# Altium integrated library Actel SX-A.IntLib: 434 symbols (part 27 of 36)
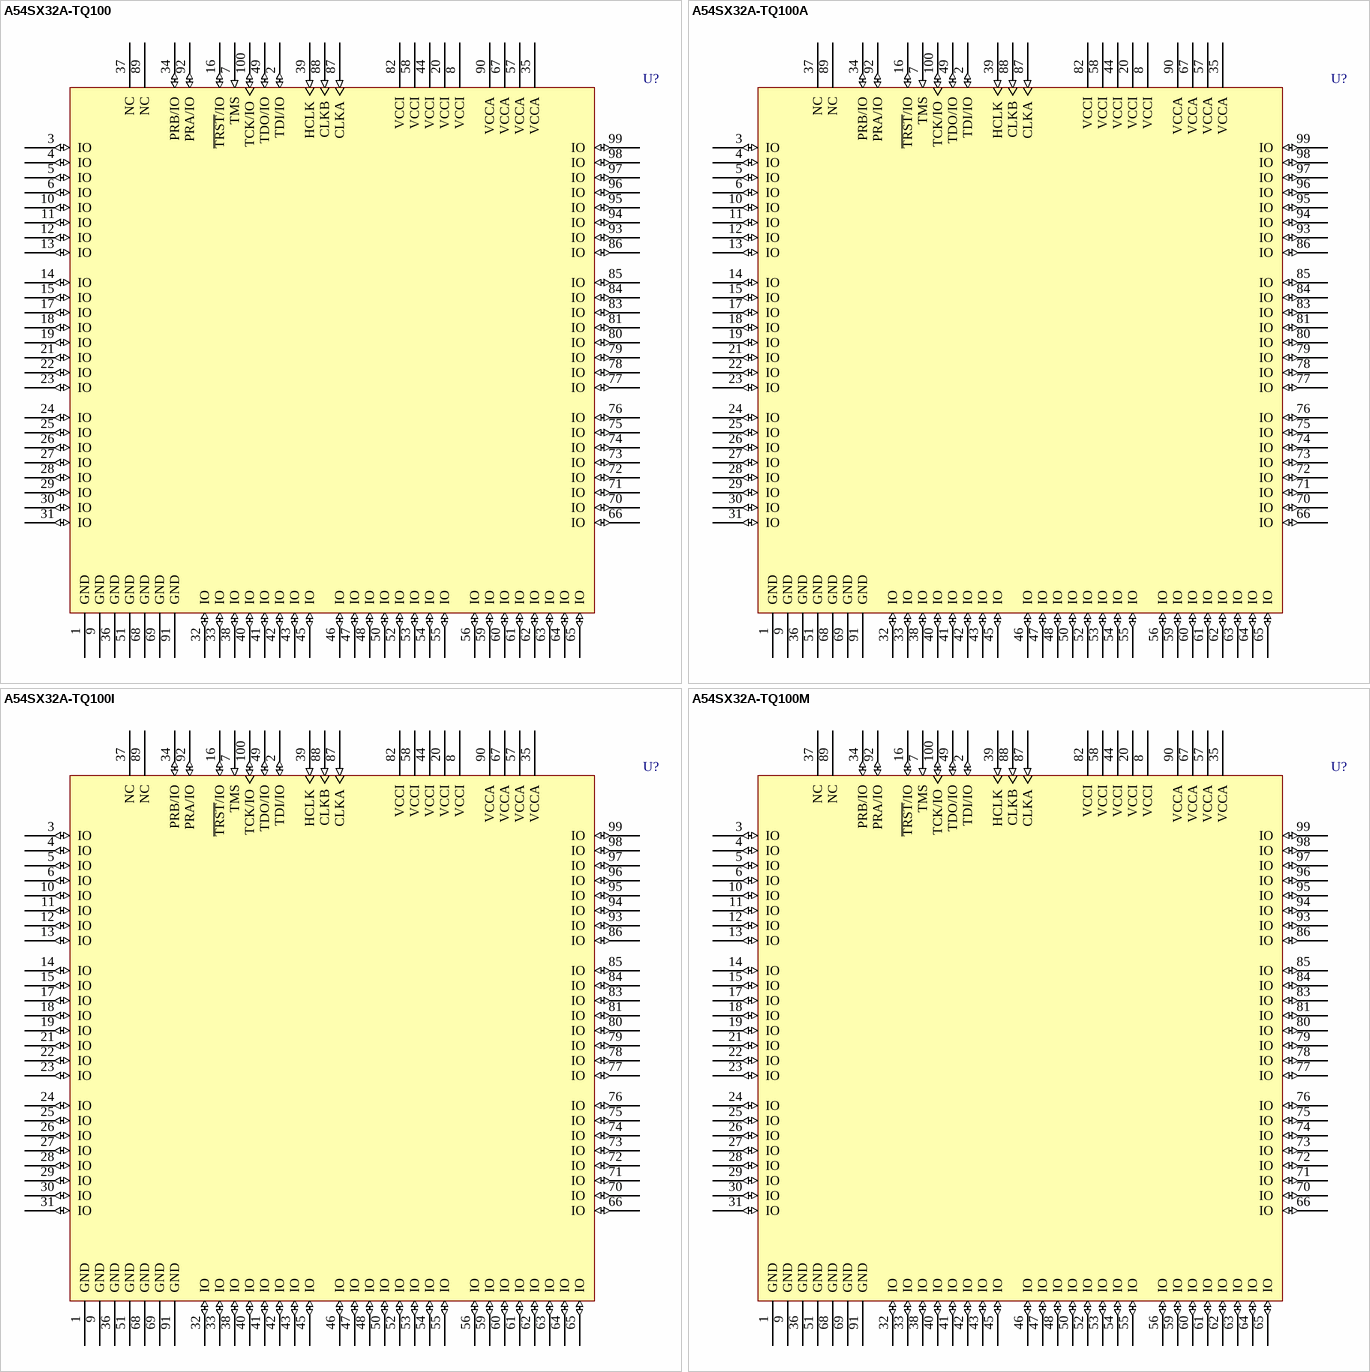
[diagram p347: symbols A54SX32A-TQ100 to A54SX32A-TQ100M]

## A54SX32A-TQ100I
designator U?
A54SX32A FPGA, 81 User IOs, 100-Pin TQFP, Standard Speed Grade, Industrial Grade; Published: 21-May-2003; LatestRevisionDate: 11-Dec-2009; LatestRevisionNote: Updated to datasheet version 5.3 Feb-2007.; DatasheetVersion: v5.3, Feb-2007; PackageVersion: ver11.2, Nov-2009; PackageReference: TQ100; Publisher: Altium Limited; PackageDescription: 100-Pin Plastic Quad Flat Pack (TQ100); Code_JEDEC: MS-026-BED; ComponentLink1Description: SX-A Datasheet; ComponentLink1URL: http://www.actel.com/documents/SXA_DS.pdf; ComponentLink2Description: Package Mechanical Drawings; ComponentLink2URL: http://www.actel.com/documents/PckgMechDrwngs.pdf; ComponentLink3Description: SX-A Documents; ComponentLink3URL: http://www.actel.com/products/proasicplus/docs.aspx; ComponentLink4Description: Actel.com Home; ComponentLink4URL: http://www.actel.com/
footprint TQ100_N (Thin QFP, 100-Leads, Body 14x14mm, Pitch 0.5mm, IPC Medium Density)
footprint TQ100_L (Thin QFP, 100-Leads, Body 14x14mm, Pitch 0.5mm, IPC High Density)
footprint TQ100_M (Thin QFP, 100-Leads, Body 14x14mm, Pitch 0.5mm, IPC Low Density)
pins: 1 GND (power), 2 TDI/IO (io), 3 IO (io), 4 IO (io), 5 IO (io), 6 IO (io), 7 TMS (in), 8 VCCI (power), 9 GND (power), 10 IO (io), 11 IO (io), 12 IO (io), 13 IO (io), 14 IO (io), 15 IO (io), 16 ~{TRST}/IO (io), 17 IO (io), 18 IO (io), 19 IO (io), 20 VCCI (power), 21 IO (io), 22 IO (io), 23 IO (io), 24 IO (io), 25 IO (io), 26 IO (io), 27 IO (io), 28 IO (io), 29 IO (io), 30 IO (io), 31 IO (io), 32 IO (io), 33 IO (io), 34 PRB/IO (io), 35 VCCA (power), 36 GND (power), 37 NC, 38 IO (io), 39 HCLK (in), 40 IO (io), 41 IO (io), 42 IO (io), 43 IO (io), 44 VCCI (power), 45 IO (io), 46 IO (io), 47 IO (io), 48 IO (io), 49 TDO/IO (io), 50 IO (io), 51 GND (power), 52 IO (io), 53 IO (io), 54 IO (io), 55 IO (io), 56 IO (io), 57 VCCA (power), 58 VCCI (power), 59 IO (io), 60 IO (io), 61 IO (io), 62 IO (io), 63 IO (io), 64 IO (io), 65 IO (io), 66 IO (io), 67 VCCA (power), 68 GND (power), 69 GND (power), 70 IO (io), 71 IO (io), 72 IO (io), 73 IO (io), 74 IO (io), 75 IO (io), 76 IO (io), 77 IO (io), 78 IO (io), 79 IO (io), 80 IO (io), 81 IO (io), 82 VCCI (power), 83 IO (io), 84 IO (io), 85 IO (io), 86 IO (io), 87 CLKA (in), 88 CLKB (in), 89 NC, 90 VCCA (power), 91 GND (power), 92 PRA/IO (io), 93 IO (io), 94 IO (io), 95 IO (io), 96 IO (io), 97 IO (io), 98 IO (io), 99 IO (io), 100 TCK/IO (io)

## A54SX32A-TQ100M
designator U?
A54SX32A FPGA, 81 User IOs, 100-Pin TQFP, Standard Speed Grade, Military Grade; Published: 17-Sep-2003; LatestRevisionDate: 11-Dec-2009; LatestRevisionNote: Updated to datasheet version 5.3 Feb-2007.; DatasheetVersion: v5.3, Feb-2007; PackageVersion: ver11.2, Nov-2009; PackageReference: TQ100; Publisher: Altium Limited; PackageDescription: 100-Pin Plastic Quad Flat Pack (TQ100); Code_JEDEC: MS-026-BED; ComponentLink1Description: SX-A Datasheet; ComponentLink1URL: http://www.actel.com/documents/SXA_DS.pdf; ComponentLink2Description: Package Mechanical Drawings; ComponentLink2URL: http://www.actel.com/documents/PckgMechDrwngs.pdf; ComponentLink3Description: SX-A Documents; ComponentLink3URL: http://www.actel.com/products/proasicplus/docs.aspx; ComponentLink4Description: Actel.com Home; ComponentLink4URL: http://www.actel.com/
footprint TQ100_N (Thin QFP, 100-Leads, Body 14x14mm, Pitch 0.5mm, IPC Medium Density)
footprint TQ100_L (Thin QFP, 100-Leads, Body 14x14mm, Pitch 0.5mm, IPC High Density)
footprint TQ100_M (Thin QFP, 100-Leads, Body 14x14mm, Pitch 0.5mm, IPC Low Density)
pins: 1 GND (power), 2 TDI/IO (io), 3 IO (io), 4 IO (io), 5 IO (io), 6 IO (io), 7 TMS (in), 8 VCCI (power), 9 GND (power), 10 IO (io), 11 IO (io), 12 IO (io), 13 IO (io), 14 IO (io), 15 IO (io), 16 ~{TRST}/IO (io), 17 IO (io), 18 IO (io), 19 IO (io), 20 VCCI (power), 21 IO (io), 22 IO (io), 23 IO (io), 24 IO (io), 25 IO (io), 26 IO (io), 27 IO (io), 28 IO (io), 29 IO (io), 30 IO (io), 31 IO (io), 32 IO (io), 33 IO (io), 34 PRB/IO (io), 35 VCCA (power), 36 GND (power), 37 NC, 38 IO (io), 39 HCLK (in), 40 IO (io), 41 IO (io), 42 IO (io), 43 IO (io), 44 VCCI (power), 45 IO (io), 46 IO (io), 47 IO (io), 48 IO (io), 49 TDO/IO (io), 50 IO (io), 51 GND (power), 52 IO (io), 53 IO (io), 54 IO (io), 55 IO (io), 56 IO (io), 57 VCCA (power), 58 VCCI (power), 59 IO (io), 60 IO (io), 61 IO (io), 62 IO (io), 63 IO (io), 64 IO (io), 65 IO (io), 66 IO (io), 67 VCCA (power), 68 GND (power), 69 GND (power), 70 IO (io), 71 IO (io), 72 IO (io), 73 IO (io), 74 IO (io), 75 IO (io), 76 IO (io), 77 IO (io), 78 IO (io), 79 IO (io), 80 IO (io), 81 IO (io), 82 VCCI (power), 83 IO (io), 84 IO (io), 85 IO (io), 86 IO (io), 87 CLKA (in), 88 CLKB (in), 89 NC, 90 VCCA (power), 91 GND (power), 92 PRA/IO (io), 93 IO (io), 94 IO (io), 95 IO (io), 96 IO (io), 97 IO (io), 98 IO (io), 99 IO (io), 100 TCK/IO (io)

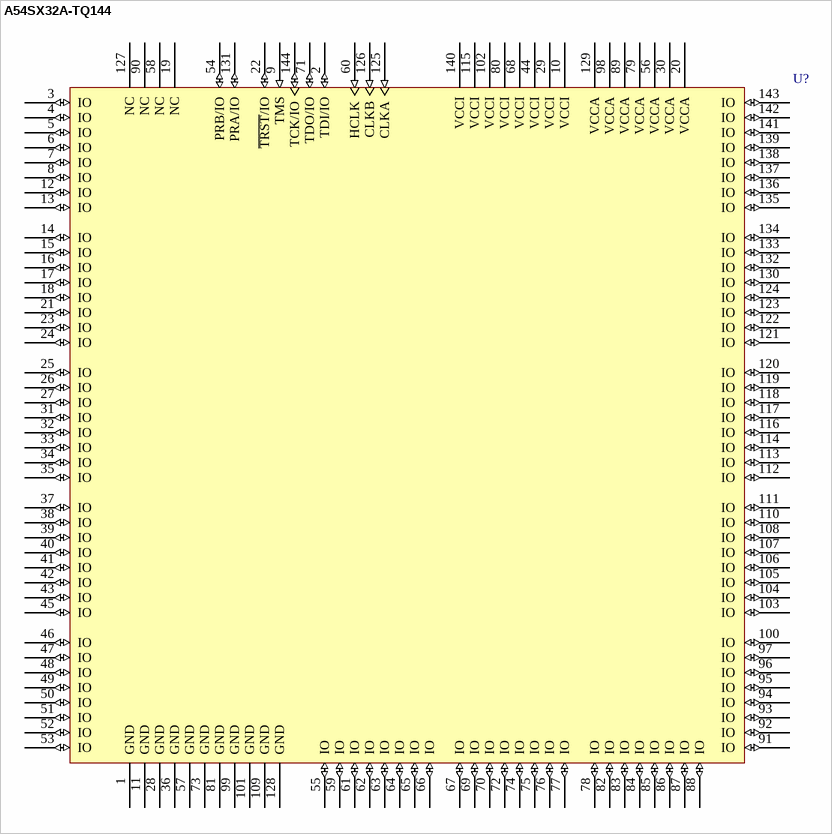
[diagram p243: symbol A54SX32A-TQ144]

## A54SX32A-TQ144
designator U?
A54SX32A FPGA, 113 User IOs, 144-Pin TQFP, Standard Speed Grade, Commercial Grade; Published: 21-May-2003; LatestRevisionDate: 11-Dec-2009; LatestRevisionNote: Updated to datasheet version 5.3 Feb-2007.; DatasheetVersion: v5.3, Feb-2007; PackageVersion: ver11.2, Nov-2009; PackageReference: TQ144; Publisher: Altium Limited; PackageDescription: 144-Pin Plastic Quad Flat Pack (TQ144); Code_JEDEC: MS-026-BFB; ComponentLink1Description: SX-A Datasheet; ComponentLink1URL: http://www.actel.com/documents/SXA_DS.pdf; ComponentLink2Description: Package Mechanical Drawings; ComponentLink2URL: http://www.actel.com/documents/PckgMechDrwngs.pdf; ComponentLink3Description: SX-A Documents; ComponentLink3URL: http://www.actel.com/products/proasicplus/docs.aspx; ComponentLink4Description: Actel.com Home; ComponentLink4URL: http://www.actel.com/
footprint TQ144_N (Thin QFP, 144-Leads, Body 20x20mm, Pitch 0.5mm, IPC Medium Density)
footprint TQ144_L (Thin QFP, 144-Leads, Body 20x20mm, Pitch 0.5mm, IPC High Density)
footprint TQ144_M (Thin QFP, 144-Leads, Body 20x20mm, Pitch 0.5mm, IPC Low Density)
pins: 1 GND (power), 2 TDI/IO (io), 3 IO (io), 4 IO (io), 5 IO (io), 6 IO (io), 7 IO (io), 8 IO (io), 9 TMS (in), 10 VCCI (power), 11 GND (power), 12 IO (io), 13 IO (io), 14 IO (io), 15 IO (io), 16 IO (io), 17 IO (io), 18 IO (io), 19 NC, 20 VCCA (power), 21 IO (io), 22 ~{TRST}/IO (io), 23 IO (io), 24 IO (io), 25 IO (io), 26 IO (io), 27 IO (io), 28 GND (power), 29 VCCI (power), 30 VCCA (power), 31 IO (io), 32 IO (io), 33 IO (io), 34 IO (io), 35 IO (io), 36 GND (power), 37 IO (io), 38 IO (io), 39 IO (io), 40 IO (io), 41 IO (io), 42 IO (io), 43 IO (io), 44 VCCI (power), 45 IO (io), 46 IO (io), 47 IO (io), 48 IO (io), 49 IO (io), 50 IO (io), 51 IO (io), 52 IO (io), 53 IO (io), 54 PRB/IO (io), 55 IO (io), 56 VCCA (power), 57 GND (power), 58 NC, 59 IO (io), 60 HCLK (in), 61 IO (io), 62 IO (io), 63 IO (io), 64 IO (io), 65 IO (io), 66 IO (io), 67 IO (io), 68 VCCI (power), 69 IO (io), 70 IO (io), 71 TDO/IO (io), 72 IO (io), 73 GND (power), 74 IO (io), 75 IO (io), 76 IO (io), 77 IO (io), 78 IO (io), 79 VCCA (power), 80 VCCI (power), 81 GND (power), 82 IO (io), 83 IO (io), 84 IO (io), 85 IO (io), 86 IO (io), 87 IO (io), 88 IO (io), 89 VCCA (power), 90 NC, 91 IO (io), 92 IO (io), 93 IO (io), 94 IO (io), 95 IO (io), 96 IO (io), 97 IO (io), 98 VCCA (power), 99 GND (power), 100 IO (io), 101 GND (power), 102 VCCI (power), 103 IO (io), 104 IO (io), 105 IO (io), 106 IO (io), 107 IO (io), 108 IO (io), 109 GND (power), 110 IO (io), 111 IO (io), 112 IO (io), 113 IO (io), 114 IO (io), 115 VCCI (power), 116 IO (io), 117 IO (io), 118 IO (io), 119 IO (io), 120 IO (io), 121 IO (io), 122 IO (io), 123 IO (io), 124 IO (io), 125 CLKA (in), 126 CLKB (in), 127 NC, 128 GND (power), 129 VCCA (power), 130 IO (io), 131 PRA/IO (io), 132 IO (io), 133 IO (io), 134 IO (io), 135 IO (io), 136 IO (io), 137 IO (io), 138 IO (io), 139 IO (io), 140 VCCI (power), 141 IO (io), 142 IO (io), 143 IO (io), 144 TCK/IO (io)

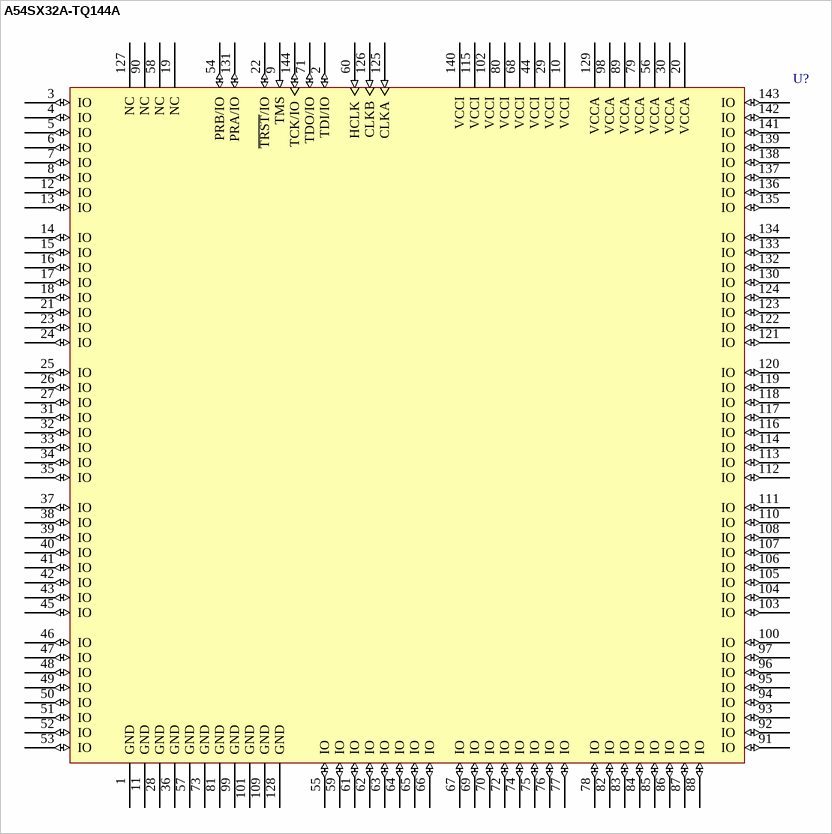
[diagram p244: symbol A54SX32A-TQ144A]

## A54SX32A-TQ144A
designator U?
A54SX32A FPGA, 113 User IOs, 144-Pin TQFP, Standard Speed Grade, Automotive Grade; Published: 21-May-2003; LatestRevisionDate: 11-Dec-2009; LatestRevisionNote: Updated to datasheet version 5.3 Feb-2007.; DatasheetVersion: v5.3, Feb-2007; PackageVersion: ver11.2, Nov-2009; PackageReference: TQ144; Publisher: Altium Limited; PackageDescription: 144-Pin Plastic Quad Flat Pack (TQ144); Code_JEDEC: MS-026-BFB; ComponentLink1Description: SX-A Datasheet; ComponentLink1URL: http://www.actel.com/documents/SXA_DS.pdf; ComponentLink2Description: Package Mechanical Drawings; ComponentLink2URL: http://www.actel.com/documents/PckgMechDrwngs.pdf; ComponentLink3Description: SX-A Documents; ComponentLink3URL: http://www.actel.com/products/proasicplus/docs.aspx; ComponentLink4Description: Actel.com Home; ComponentLink4URL: http://www.actel.com/
footprint TQ144_N (Thin QFP, 144-Leads, Body 20x20mm, Pitch 0.5mm, IPC Medium Density)
footprint TQ144_L (Thin QFP, 144-Leads, Body 20x20mm, Pitch 0.5mm, IPC High Density)
footprint TQ144_M (Thin QFP, 144-Leads, Body 20x20mm, Pitch 0.5mm, IPC Low Density)
pins: 1 GND (power), 2 TDI/IO (io), 3 IO (io), 4 IO (io), 5 IO (io), 6 IO (io), 7 IO (io), 8 IO (io), 9 TMS (in), 10 VCCI (power), 11 GND (power), 12 IO (io), 13 IO (io), 14 IO (io), 15 IO (io), 16 IO (io), 17 IO (io), 18 IO (io), 19 NC, 20 VCCA (power), 21 IO (io), 22 ~{TRST}/IO (io), 23 IO (io), 24 IO (io), 25 IO (io), 26 IO (io), 27 IO (io), 28 GND (power), 29 VCCI (power), 30 VCCA (power), 31 IO (io), 32 IO (io), 33 IO (io), 34 IO (io), 35 IO (io), 36 GND (power), 37 IO (io), 38 IO (io), 39 IO (io), 40 IO (io), 41 IO (io), 42 IO (io), 43 IO (io), 44 VCCI (power), 45 IO (io), 46 IO (io), 47 IO (io), 48 IO (io), 49 IO (io), 50 IO (io), 51 IO (io), 52 IO (io), 53 IO (io), 54 PRB/IO (io), 55 IO (io), 56 VCCA (power), 57 GND (power), 58 NC, 59 IO (io), 60 HCLK (in), 61 IO (io), 62 IO (io), 63 IO (io), 64 IO (io), 65 IO (io), 66 IO (io), 67 IO (io), 68 VCCI (power), 69 IO (io), 70 IO (io), 71 TDO/IO (io), 72 IO (io), 73 GND (power), 74 IO (io), 75 IO (io), 76 IO (io), 77 IO (io), 78 IO (io), 79 VCCA (power), 80 VCCI (power), 81 GND (power), 82 IO (io), 83 IO (io), 84 IO (io), 85 IO (io), 86 IO (io), 87 IO (io), 88 IO (io), 89 VCCA (power), 90 NC, 91 IO (io), 92 IO (io), 93 IO (io), 94 IO (io), 95 IO (io), 96 IO (io), 97 IO (io), 98 VCCA (power), 99 GND (power), 100 IO (io), 101 GND (power), 102 VCCI (power), 103 IO (io), 104 IO (io), 105 IO (io), 106 IO (io), 107 IO (io), 108 IO (io), 109 GND (power), 110 IO (io), 111 IO (io), 112 IO (io), 113 IO (io), 114 IO (io), 115 VCCI (power), 116 IO (io), 117 IO (io), 118 IO (io), 119 IO (io), 120 IO (io), 121 IO (io), 122 IO (io), 123 IO (io), 124 IO (io), 125 CLKA (in), 126 CLKB (in), 127 NC, 128 GND (power), 129 VCCA (power), 130 IO (io), 131 PRA/IO (io), 132 IO (io), 133 IO (io), 134 IO (io), 135 IO (io), 136 IO (io), 137 IO (io), 138 IO (io), 139 IO (io), 140 VCCI (power), 141 IO (io), 142 IO (io), 143 IO (io), 144 TCK/IO (io)

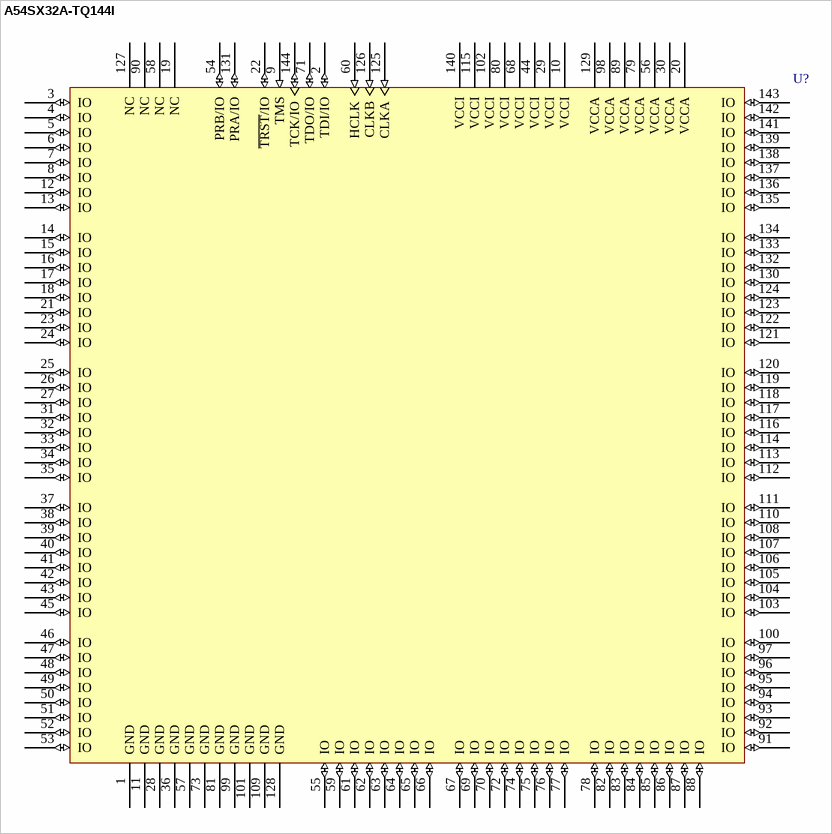
[diagram p245: symbol A54SX32A-TQ144I]

## A54SX32A-TQ144I
designator U?
A54SX32A FPGA, 113 User IOs, 144-Pin TQFP, Standard Speed Grade, Industrial Grade; Published: 21-May-2003; LatestRevisionDate: 11-Dec-2009; LatestRevisionNote: Updated to datasheet version 5.3 Feb-2007.; DatasheetVersion: v5.3, Feb-2007; PackageVersion: ver11.2, Nov-2009; PackageReference: TQ144; Publisher: Altium Limited; PackageDescription: 144-Pin Plastic Quad Flat Pack (TQ144); Code_JEDEC: MS-026-BFB; ComponentLink1Description: SX-A Datasheet; ComponentLink1URL: http://www.actel.com/documents/SXA_DS.pdf; ComponentLink2Description: Package Mechanical Drawings; ComponentLink2URL: http://www.actel.com/documents/PckgMechDrwngs.pdf; ComponentLink3Description: SX-A Documents; ComponentLink3URL: http://www.actel.com/products/proasicplus/docs.aspx; ComponentLink4Description: Actel.com Home; ComponentLink4URL: http://www.actel.com/
footprint TQ144_N (Thin QFP, 144-Leads, Body 20x20mm, Pitch 0.5mm, IPC Medium Density)
footprint TQ144_L (Thin QFP, 144-Leads, Body 20x20mm, Pitch 0.5mm, IPC High Density)
footprint TQ144_M (Thin QFP, 144-Leads, Body 20x20mm, Pitch 0.5mm, IPC Low Density)
pins: 1 GND (power), 2 TDI/IO (io), 3 IO (io), 4 IO (io), 5 IO (io), 6 IO (io), 7 IO (io), 8 IO (io), 9 TMS (in), 10 VCCI (power), 11 GND (power), 12 IO (io), 13 IO (io), 14 IO (io), 15 IO (io), 16 IO (io), 17 IO (io), 18 IO (io), 19 NC, 20 VCCA (power), 21 IO (io), 22 ~{TRST}/IO (io), 23 IO (io), 24 IO (io), 25 IO (io), 26 IO (io), 27 IO (io), 28 GND (power), 29 VCCI (power), 30 VCCA (power), 31 IO (io), 32 IO (io), 33 IO (io), 34 IO (io), 35 IO (io), 36 GND (power), 37 IO (io), 38 IO (io), 39 IO (io), 40 IO (io), 41 IO (io), 42 IO (io), 43 IO (io), 44 VCCI (power), 45 IO (io), 46 IO (io), 47 IO (io), 48 IO (io), 49 IO (io), 50 IO (io), 51 IO (io), 52 IO (io), 53 IO (io), 54 PRB/IO (io), 55 IO (io), 56 VCCA (power), 57 GND (power), 58 NC, 59 IO (io), 60 HCLK (in), 61 IO (io), 62 IO (io), 63 IO (io), 64 IO (io), 65 IO (io), 66 IO (io), 67 IO (io), 68 VCCI (power), 69 IO (io), 70 IO (io), 71 TDO/IO (io), 72 IO (io), 73 GND (power), 74 IO (io), 75 IO (io), 76 IO (io), 77 IO (io), 78 IO (io), 79 VCCA (power), 80 VCCI (power), 81 GND (power), 82 IO (io), 83 IO (io), 84 IO (io), 85 IO (io), 86 IO (io), 87 IO (io), 88 IO (io), 89 VCCA (power), 90 NC, 91 IO (io), 92 IO (io), 93 IO (io), 94 IO (io), 95 IO (io), 96 IO (io), 97 IO (io), 98 VCCA (power), 99 GND (power), 100 IO (io), 101 GND (power), 102 VCCI (power), 103 IO (io), 104 IO (io), 105 IO (io), 106 IO (io), 107 IO (io), 108 IO (io), 109 GND (power), 110 IO (io), 111 IO (io), 112 IO (io), 113 IO (io), 114 IO (io), 115 VCCI (power), 116 IO (io), 117 IO (io), 118 IO (io), 119 IO (io), 120 IO (io), 121 IO (io), 122 IO (io), 123 IO (io), 124 IO (io), 125 CLKA (in), 126 CLKB (in), 127 NC, 128 GND (power), 129 VCCA (power), 130 IO (io), 131 PRA/IO (io), 132 IO (io), 133 IO (io), 134 IO (io), 135 IO (io), 136 IO (io), 137 IO (io), 138 IO (io), 139 IO (io), 140 VCCI (power), 141 IO (io), 142 IO (io), 143 IO (io), 144 TCK/IO (io)

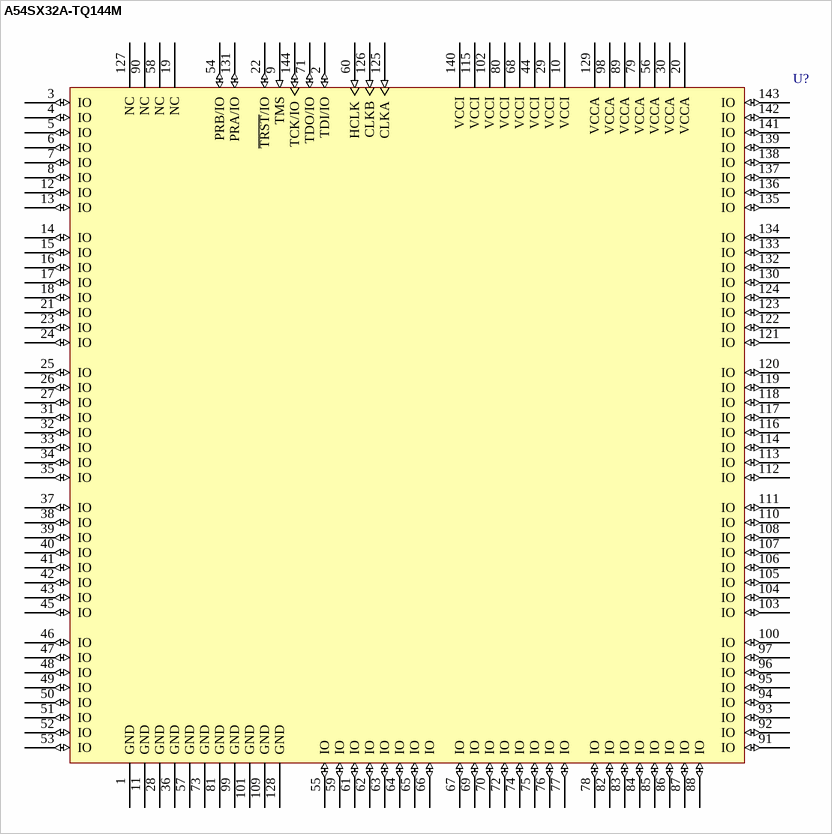
[diagram p246: symbol A54SX32A-TQ144M]

## A54SX32A-TQ144M
designator U?
A54SX32A FPGA, 113 User IOs, 144-Pin TQFP, Standard Speed Grade, Military Grade; Published: 17-Sep-2003; LatestRevisionDate: 11-Dec-2009; LatestRevisionNote: Updated to datasheet version 5.3 Feb-2007.; DatasheetVersion: v5.3, Feb-2007; PackageVersion: ver11.2, Nov-2009; PackageReference: TQ144; Publisher: Altium Limited; PackageDescription: 144-Pin Plastic Quad Flat Pack (TQ144); Code_JEDEC: MS-026-BFB; ComponentLink1Description: SX-A Datasheet; ComponentLink1URL: http://www.actel.com/documents/SXA_DS.pdf; ComponentLink2Description: Package Mechanical Drawings; ComponentLink2URL: http://www.actel.com/documents/PckgMechDrwngs.pdf; ComponentLink3Description: SX-A Documents; ComponentLink3URL: http://www.actel.com/products/proasicplus/docs.aspx; ComponentLink4Description: Actel.com Home; ComponentLink4URL: http://www.actel.com/
footprint TQ144_N (Thin QFP, 144-Leads, Body 20x20mm, Pitch 0.5mm, IPC Medium Density)
footprint TQ144_L (Thin QFP, 144-Leads, Body 20x20mm, Pitch 0.5mm, IPC High Density)
footprint TQ144_M (Thin QFP, 144-Leads, Body 20x20mm, Pitch 0.5mm, IPC Low Density)
pins: 1 GND (power), 2 TDI/IO (io), 3 IO (io), 4 IO (io), 5 IO (io), 6 IO (io), 7 IO (io), 8 IO (io), 9 TMS (in), 10 VCCI (power), 11 GND (power), 12 IO (io), 13 IO (io), 14 IO (io), 15 IO (io), 16 IO (io), 17 IO (io), 18 IO (io), 19 NC, 20 VCCA (power), 21 IO (io), 22 ~{TRST}/IO (io), 23 IO (io), 24 IO (io), 25 IO (io), 26 IO (io), 27 IO (io), 28 GND (power), 29 VCCI (power), 30 VCCA (power), 31 IO (io), 32 IO (io), 33 IO (io), 34 IO (io), 35 IO (io), 36 GND (power), 37 IO (io), 38 IO (io), 39 IO (io), 40 IO (io), 41 IO (io), 42 IO (io), 43 IO (io), 44 VCCI (power), 45 IO (io), 46 IO (io), 47 IO (io), 48 IO (io), 49 IO (io), 50 IO (io), 51 IO (io), 52 IO (io), 53 IO (io), 54 PRB/IO (io), 55 IO (io), 56 VCCA (power), 57 GND (power), 58 NC, 59 IO (io), 60 HCLK (in), 61 IO (io), 62 IO (io), 63 IO (io), 64 IO (io), 65 IO (io), 66 IO (io), 67 IO (io), 68 VCCI (power), 69 IO (io), 70 IO (io), 71 TDO/IO (io), 72 IO (io), 73 GND (power), 74 IO (io), 75 IO (io), 76 IO (io), 77 IO (io), 78 IO (io), 79 VCCA (power), 80 VCCI (power), 81 GND (power), 82 IO (io), 83 IO (io), 84 IO (io), 85 IO (io), 86 IO (io), 87 IO (io), 88 IO (io), 89 VCCA (power), 90 NC, 91 IO (io), 92 IO (io), 93 IO (io), 94 IO (io), 95 IO (io), 96 IO (io), 97 IO (io), 98 VCCA (power), 99 GND (power), 100 IO (io), 101 GND (power), 102 VCCI (power), 103 IO (io), 104 IO (io), 105 IO (io), 106 IO (io), 107 IO (io), 108 IO (io), 109 GND (power), 110 IO (io), 111 IO (io), 112 IO (io), 113 IO (io), 114 IO (io), 115 VCCI (power), 116 IO (io), 117 IO (io), 118 IO (io), 119 IO (io), 120 IO (io), 121 IO (io), 122 IO (io), 123 IO (io), 124 IO (io), 125 CLKA (in), 126 CLKB (in), 127 NC, 128 GND (power), 129 VCCA (power), 130 IO (io), 131 PRA/IO (io), 132 IO (io), 133 IO (io), 134 IO (io), 135 IO (io), 136 IO (io), 137 IO (io), 138 IO (io), 139 IO (io), 140 VCCI (power), 141 IO (io), 142 IO (io), 143 IO (io), 144 TCK/IO (io)

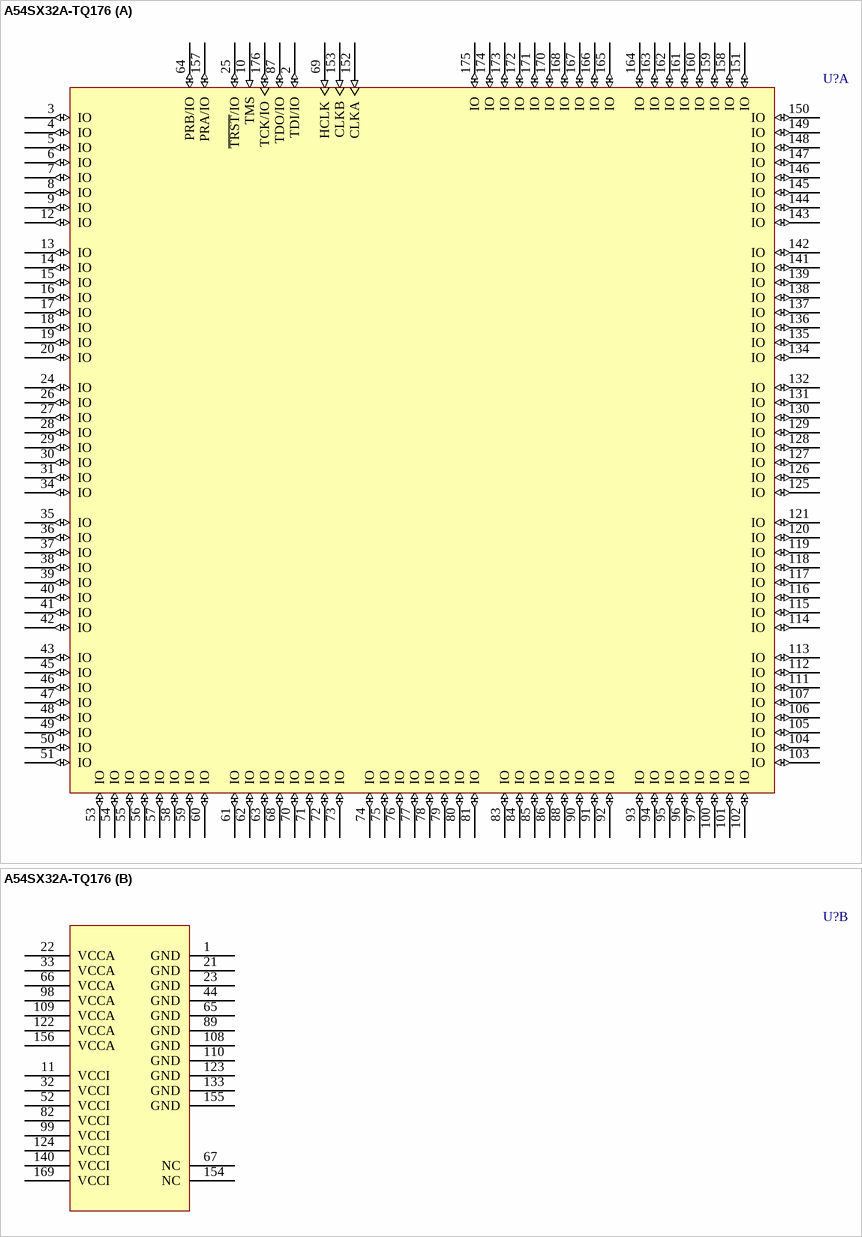
[diagram p247: symbol A54SX32A-TQ176]

## A54SX32A-TQ176
designator U?
A54SX32A FPGA, 147 User IOs, 176-Pin TQFP, Standard Speed Grade, Commercial Grade; Published: 21-May-2003; LatestRevisionDate: 11-Dec-2009; LatestRevisionNote: Updated to datasheet version 5.3 Feb-2007.; DatasheetVersion: v5.3, Feb-2007; PackageVersion: ver11.2, Nov-2009; PackageReference: TQ176; Publisher: Altium Limited; PackageDescription: 176-Pin Plastic Quad Flat Pack (TQ176); Code_JEDEC: MS-026-BCA; ComponentLink1Description: SX-A Datasheet; ComponentLink1URL: http://www.actel.com/documents/SXA_DS.pdf; ComponentLink2Description: Package Mechanical Drawings; ComponentLink2URL: http://www.actel.com/documents/PckgMechDrwngs.pdf; ComponentLink3Description: SX-A Documents; ComponentLink3URL: http://www.actel.com/products/proasicplus/docs.aspx; ComponentLink4Description: Actel.com Home; ComponentLink4URL: http://www.actel.com/
footprint TQ176_N (Thin QFP, 176-Leads, Body 24x24mm, Pitch 0.5mm, IPC Medium Density)
footprint TQ176_L (Thin QFP, 176-Leads, Body 24x24mm, Pitch 0.5mm, IPC High Density)
footprint TQ176_M (Thin QFP, 176-Leads, Body 24x24mm, Pitch 0.5mm, IPC Low Density)
part A pins: 2 TDI/IO (io), 3 IO (io), 4 IO (io), 5 IO (io), 6 IO (io), 7 IO (io), 8 IO (io), 9 IO (io), 10 TMS (in), 12 IO (io), 13 IO (io), 14 IO (io), 15 IO (io), 16 IO (io), 17 IO (io), 18 IO (io), 19 IO (io), 20 IO (io), 24 IO (io), 25 ~{TRST}/IO (io), 26 IO (io), 27 IO (io), 28 IO (io), 29 IO (io), 30 IO (io), 31 IO (io), 34 IO (io), 35 IO (io), 36 IO (io), 37 IO (io), 38 IO (io), 39 IO (io), 40 IO (io), 41 IO (io), 42 IO (io), 43 IO (io), 45 IO (io), 46 IO (io), 47 IO (io), 48 IO (io), 49 IO (io), 50 IO (io), 51 IO (io), 53 IO (io), 54 IO (io), 55 IO (io), 56 IO (io), 57 IO (io), 58 IO (io), 59 IO (io), 60 IO (io), 61 IO (io), 62 IO (io), 63 IO (io), 64 PRB/IO (io), 68 IO (io), 69 HCLK (in), 70 IO (io), 71 IO (io), 72 IO (io), 73 IO (io), 74 IO (io), 75 IO (io), 76 IO (io), 77 IO (io), 78 IO (io), 79 IO (io), 80 IO (io), 81 IO (io), 83 IO (io), 84 IO (io), 85 IO (io), 86 IO (io), 87 TDO/IO (io), 88 IO (io), 90 IO (io), 91 IO (io), 92 IO (io), 93 IO (io), 94 IO (io), 95 IO (io), 96 IO (io), 97 IO (io), 100 IO (io), 101 IO (io), 102 IO (io), 103 IO (io), 104 IO (io), 105 IO (io), 106 IO (io), 107 IO (io), 111 IO (io), 112 IO (io), 113 IO (io), 114 IO (io), 115 IO (io), 116 IO (io), 117 IO (io), 118 IO (io), 119 IO (io), 120 IO (io), 121 IO (io), 125 IO (io), 126 IO (io), 127 IO (io), 128 IO (io), 129 IO (io), 130 IO (io), 131 IO (io), 132 IO (io), 134 IO (io), 135 IO (io), 136 IO (io), 137 IO (io), 138 IO (io), 139 IO (io), 141 IO (io), 142 IO (io), 143 IO (io), 144 IO (io), 145 IO (io), 146 IO (io), 147 IO (io), 148 IO (io), 149 IO (io), 150 IO (io), 151 IO (io), 152 CLKA (in), 153 CLKB (in), 157 PRA/IO (io), 158 IO (io), 159 IO (io), 160 IO (io), 161 IO (io), 162 IO (io), 163 IO (io), 164 IO (io), 165 IO (io), 166 IO (io), 167 IO (io), 168 IO (io), 170 IO (io), 171 IO (io), 172 IO (io), 173 IO (io), 174 IO (io), 175 IO (io), 176 TCK/IO (io)
part B pins: 1 GND (power), 11 VCCI (power), 21 GND (power), 22 VCCA (power), 23 GND (power), 32 VCCI (power), 33 VCCA (power), 44 GND (power), 52 VCCI (power), 65 GND (power), 66 VCCA (power), 67 NC, 82 VCCI (power), 89 GND (power), 98 VCCA (power), 99 VCCI (power), 108 GND (power), 109 VCCA (power), 110 GND (power), 122 VCCA (power), 123 GND (power), 124 VCCI (power), 133 GND (power), 140 VCCI (power), 154 NC, 155 GND (power), 156 VCCA (power), 169 VCCI (power)

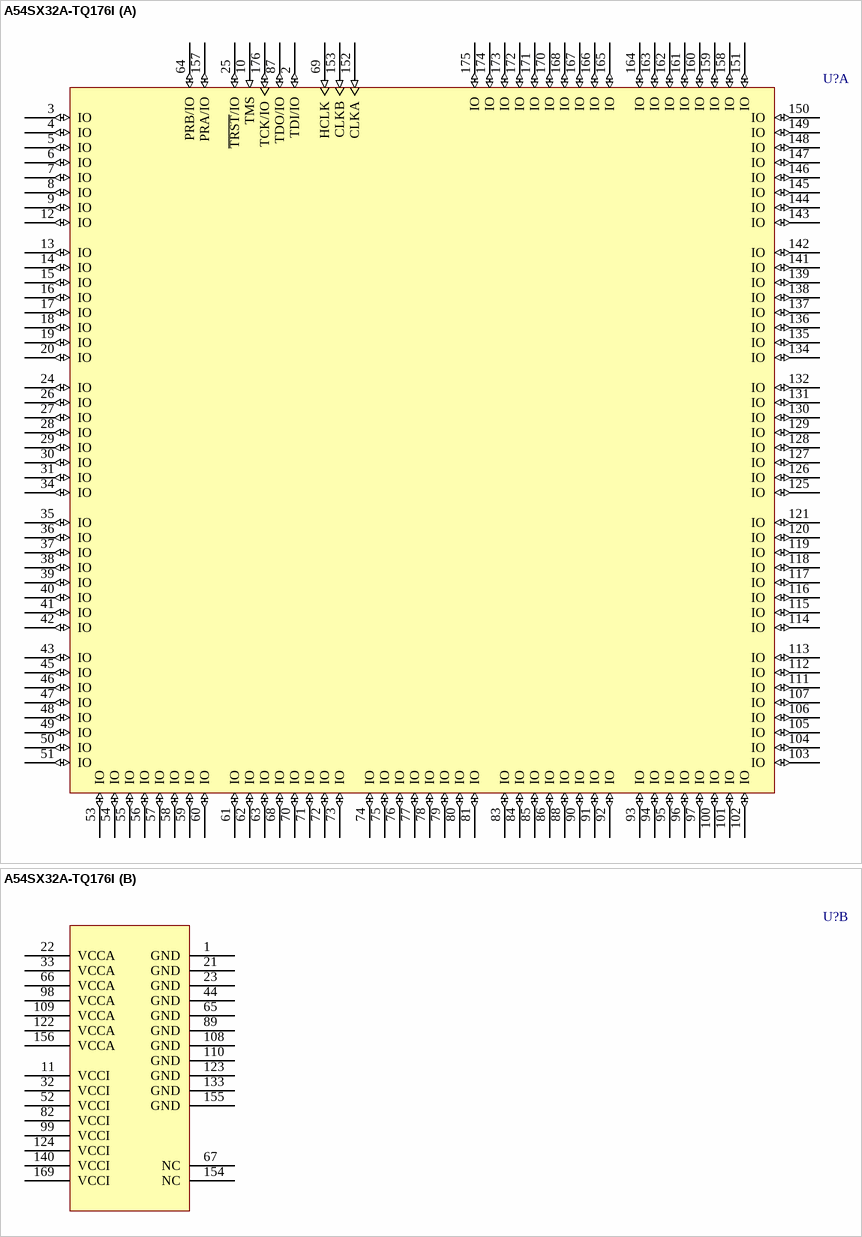
[diagram p248: symbol A54SX32A-TQ176I]

## A54SX32A-TQ176I
designator U?
A54SX32A FPGA, 147 User IOs, 176-Pin TQFP, Standard Speed Grade, Industrial Grade; Published: 21-May-2003; LatestRevisionDate: 11-Dec-2009; LatestRevisionNote: Updated to datasheet version 5.3 Feb-2007.; DatasheetVersion: v5.3, Feb-2007; PackageVersion: ver11.2, Nov-2009; PackageReference: TQ176; Publisher: Altium Limited; PackageDescription: 176-Pin Plastic Quad Flat Pack (TQ176); Code_JEDEC: MS-026-BCA; ComponentLink1Description: SX-A Datasheet; ComponentLink1URL: http://www.actel.com/documents/SXA_DS.pdf; ComponentLink2Description: Package Mechanical Drawings; ComponentLink2URL: http://www.actel.com/documents/PckgMechDrwngs.pdf; ComponentLink3Description: SX-A Documents; ComponentLink3URL: http://www.actel.com/products/proasicplus/docs.aspx; ComponentLink4Description: Actel.com Home; ComponentLink4URL: http://www.actel.com/
footprint TQ176_N (Thin QFP, 176-Leads, Body 24x24mm, Pitch 0.5mm, IPC Medium Density)
footprint TQ176_L (Thin QFP, 176-Leads, Body 24x24mm, Pitch 0.5mm, IPC High Density)
footprint TQ176_M (Thin QFP, 176-Leads, Body 24x24mm, Pitch 0.5mm, IPC Low Density)
part A pins: 2 TDI/IO (io), 3 IO (io), 4 IO (io), 5 IO (io), 6 IO (io), 7 IO (io), 8 IO (io), 9 IO (io), 10 TMS (in), 12 IO (io), 13 IO (io), 14 IO (io), 15 IO (io), 16 IO (io), 17 IO (io), 18 IO (io), 19 IO (io), 20 IO (io), 24 IO (io), 25 ~{TRST}/IO (io), 26 IO (io), 27 IO (io), 28 IO (io), 29 IO (io), 30 IO (io), 31 IO (io), 34 IO (io), 35 IO (io), 36 IO (io), 37 IO (io), 38 IO (io), 39 IO (io), 40 IO (io), 41 IO (io), 42 IO (io), 43 IO (io), 45 IO (io), 46 IO (io), 47 IO (io), 48 IO (io), 49 IO (io), 50 IO (io), 51 IO (io), 53 IO (io), 54 IO (io), 55 IO (io), 56 IO (io), 57 IO (io), 58 IO (io), 59 IO (io), 60 IO (io), 61 IO (io), 62 IO (io), 63 IO (io), 64 PRB/IO (io), 68 IO (io), 69 HCLK (in), 70 IO (io), 71 IO (io), 72 IO (io), 73 IO (io), 74 IO (io), 75 IO (io), 76 IO (io), 77 IO (io), 78 IO (io), 79 IO (io), 80 IO (io), 81 IO (io), 83 IO (io), 84 IO (io), 85 IO (io), 86 IO (io), 87 TDO/IO (io), 88 IO (io), 90 IO (io), 91 IO (io), 92 IO (io), 93 IO (io), 94 IO (io), 95 IO (io), 96 IO (io), 97 IO (io), 100 IO (io), 101 IO (io), 102 IO (io), 103 IO (io), 104 IO (io), 105 IO (io), 106 IO (io), 107 IO (io), 111 IO (io), 112 IO (io), 113 IO (io), 114 IO (io), 115 IO (io), 116 IO (io), 117 IO (io), 118 IO (io), 119 IO (io), 120 IO (io), 121 IO (io), 125 IO (io), 126 IO (io), 127 IO (io), 128 IO (io), 129 IO (io), 130 IO (io), 131 IO (io), 132 IO (io), 134 IO (io), 135 IO (io), 136 IO (io), 137 IO (io), 138 IO (io), 139 IO (io), 141 IO (io), 142 IO (io), 143 IO (io), 144 IO (io), 145 IO (io), 146 IO (io), 147 IO (io), 148 IO (io), 149 IO (io), 150 IO (io), 151 IO (io), 152 CLKA (in), 153 CLKB (in), 157 PRA/IO (io), 158 IO (io), 159 IO (io), 160 IO (io), 161 IO (io), 162 IO (io), 163 IO (io), 164 IO (io), 165 IO (io), 166 IO (io), 167 IO (io), 168 IO (io), 170 IO (io), 171 IO (io), 172 IO (io), 173 IO (io), 174 IO (io), 175 IO (io), 176 TCK/IO (io)
part B pins: 1 GND (power), 11 VCCI (power), 21 GND (power), 22 VCCA (power), 23 GND (power), 32 VCCI (power), 33 VCCA (power), 44 GND (power), 52 VCCI (power), 65 GND (power), 66 VCCA (power), 67 NC, 82 VCCI (power), 89 GND (power), 98 VCCA (power), 99 VCCI (power), 108 GND (power), 109 VCCA (power), 110 GND (power), 122 VCCA (power), 123 GND (power), 124 VCCI (power), 133 GND (power), 140 VCCI (power), 154 NC, 155 GND (power), 156 VCCA (power), 169 VCCI (power)

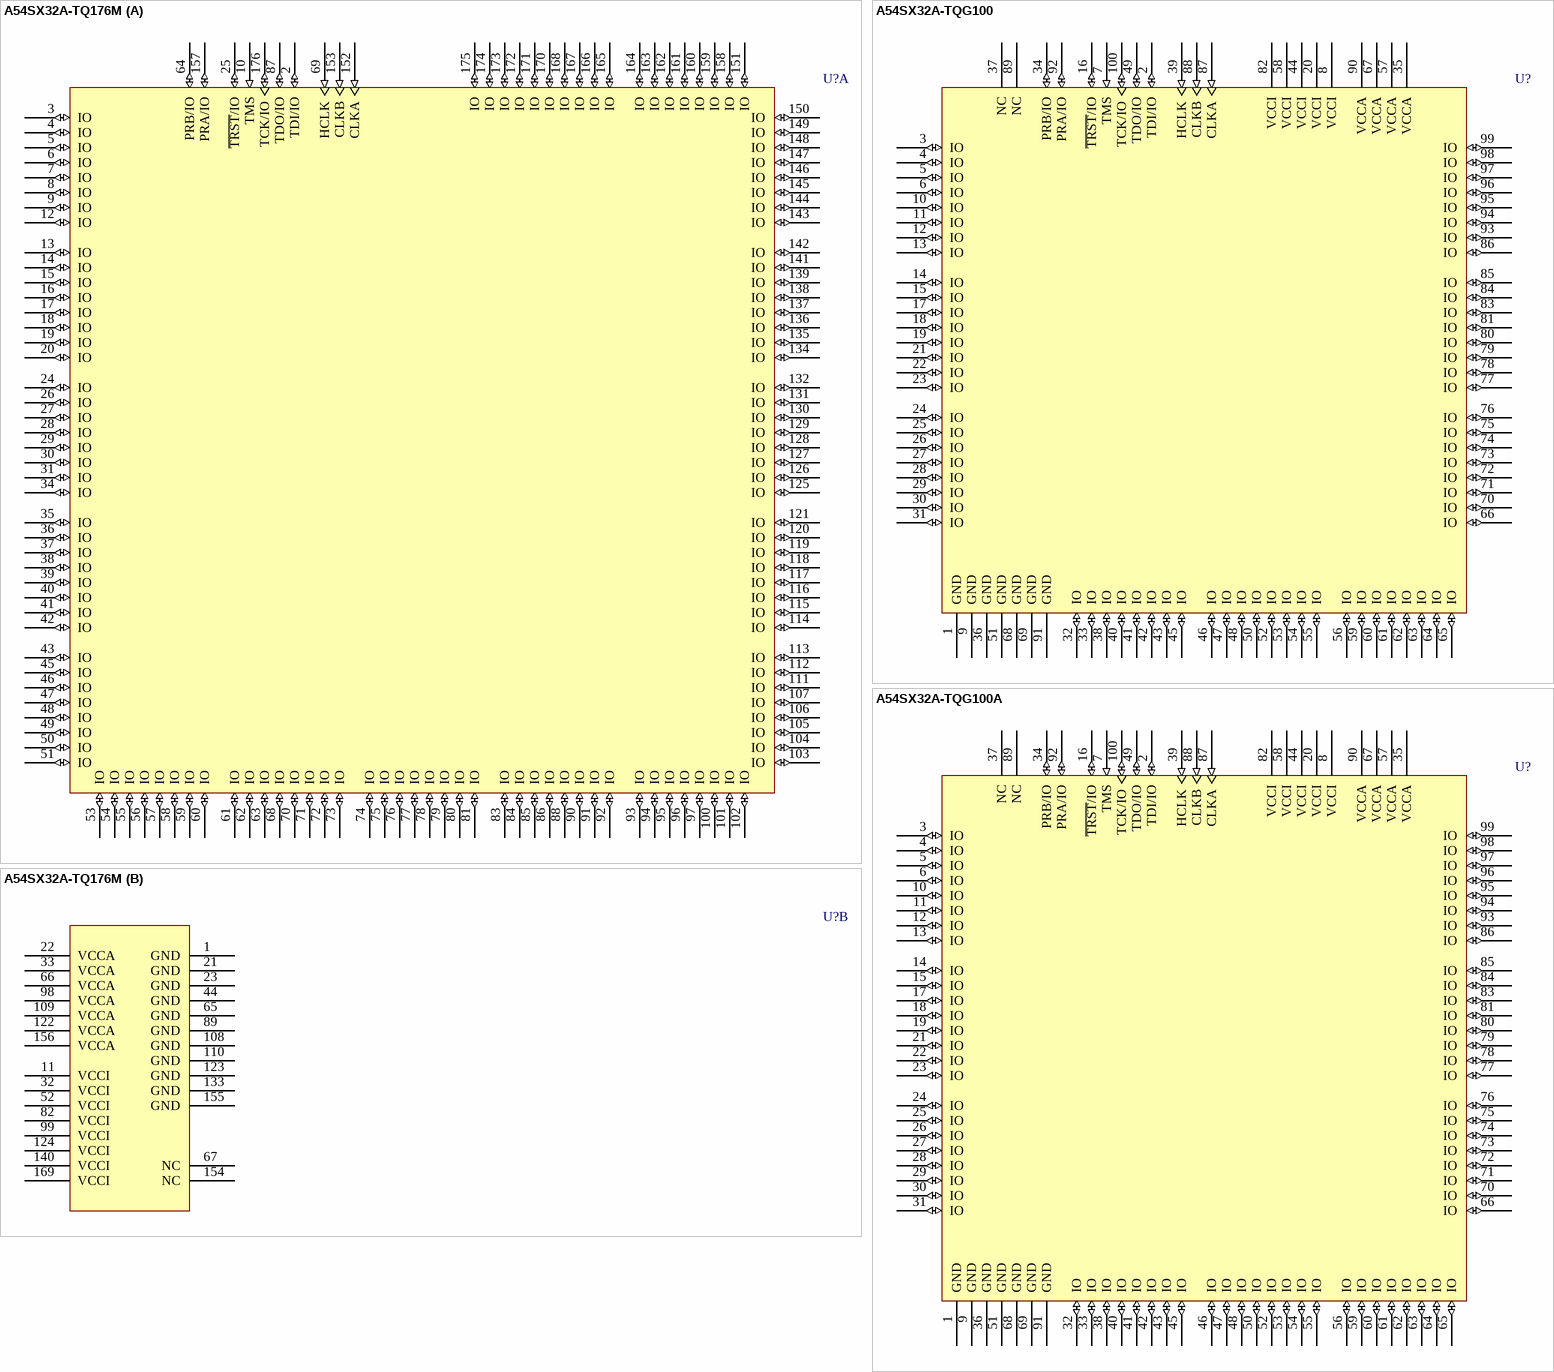
[diagram p249: symbols A54SX32A-TQ176M to A54SX32A-TQG100A]

## A54SX32A-TQ176M
designator U?
A54SX32A FPGA, 147 User IOs, 176-Pin TQFP, Standard Speed Grade, Military Grade; Published: 17-Sep-2003; LatestRevisionDate: 11-Dec-2009; LatestRevisionNote: Updated to datasheet version 5.3 Feb-2007.; DatasheetVersion: v5.3, Feb-2007; PackageVersion: ver11.2, Nov-2009; PackageReference: TQ176; Publisher: Altium Limited; PackageDescription: 176-Pin Plastic Quad Flat Pack (TQ176); Code_JEDEC: MS-026-BCA; ComponentLink1Description: SX-A Datasheet; ComponentLink1URL: http://www.actel.com/documents/SXA_DS.pdf; ComponentLink2Description: Package Mechanical Drawings; ComponentLink2URL: http://www.actel.com/documents/PckgMechDrwngs.pdf; ComponentLink3Description: SX-A Documents; ComponentLink3URL: http://www.actel.com/products/proasicplus/docs.aspx; ComponentLink4Description: Actel.com Home; ComponentLink4URL: http://www.actel.com/
footprint TQ176_N (Thin QFP, 176-Leads, Body 24x24mm, Pitch 0.5mm, IPC Medium Density)
footprint TQ176_L (Thin QFP, 176-Leads, Body 24x24mm, Pitch 0.5mm, IPC High Density)
footprint TQ176_M (Thin QFP, 176-Leads, Body 24x24mm, Pitch 0.5mm, IPC Low Density)
part A pins: 2 TDI/IO (io), 3 IO (io), 4 IO (io), 5 IO (io), 6 IO (io), 7 IO (io), 8 IO (io), 9 IO (io), 10 TMS (in), 12 IO (io), 13 IO (io), 14 IO (io), 15 IO (io), 16 IO (io), 17 IO (io), 18 IO (io), 19 IO (io), 20 IO (io), 24 IO (io), 25 ~{TRST}/IO (io), 26 IO (io), 27 IO (io), 28 IO (io), 29 IO (io), 30 IO (io), 31 IO (io), 34 IO (io), 35 IO (io), 36 IO (io), 37 IO (io), 38 IO (io), 39 IO (io), 40 IO (io), 41 IO (io), 42 IO (io), 43 IO (io), 45 IO (io), 46 IO (io), 47 IO (io), 48 IO (io), 49 IO (io), 50 IO (io), 51 IO (io), 53 IO (io), 54 IO (io), 55 IO (io), 56 IO (io), 57 IO (io), 58 IO (io), 59 IO (io), 60 IO (io), 61 IO (io), 62 IO (io), 63 IO (io), 64 PRB/IO (io), 68 IO (io), 69 HCLK (in), 70 IO (io), 71 IO (io), 72 IO (io), 73 IO (io), 74 IO (io), 75 IO (io), 76 IO (io), 77 IO (io), 78 IO (io), 79 IO (io), 80 IO (io), 81 IO (io), 83 IO (io), 84 IO (io), 85 IO (io), 86 IO (io), 87 TDO/IO (io), 88 IO (io), 90 IO (io), 91 IO (io), 92 IO (io), 93 IO (io), 94 IO (io), 95 IO (io), 96 IO (io), 97 IO (io), 100 IO (io), 101 IO (io), 102 IO (io), 103 IO (io), 104 IO (io), 105 IO (io), 106 IO (io), 107 IO (io), 111 IO (io), 112 IO (io), 113 IO (io), 114 IO (io), 115 IO (io), 116 IO (io), 117 IO (io), 118 IO (io), 119 IO (io), 120 IO (io), 121 IO (io), 125 IO (io), 126 IO (io), 127 IO (io), 128 IO (io), 129 IO (io), 130 IO (io), 131 IO (io), 132 IO (io), 134 IO (io), 135 IO (io), 136 IO (io), 137 IO (io), 138 IO (io), 139 IO (io), 141 IO (io), 142 IO (io), 143 IO (io), 144 IO (io), 145 IO (io), 146 IO (io), 147 IO (io), 148 IO (io), 149 IO (io), 150 IO (io), 151 IO (io), 152 CLKA (in), 153 CLKB (in), 157 PRA/IO (io), 158 IO (io), 159 IO (io), 160 IO (io), 161 IO (io), 162 IO (io), 163 IO (io), 164 IO (io), 165 IO (io), 166 IO (io), 167 IO (io), 168 IO (io), 170 IO (io), 171 IO (io), 172 IO (io), 173 IO (io), 174 IO (io), 175 IO (io), 176 TCK/IO (io)
part B pins: 1 GND (power), 11 VCCI (power), 21 GND (power), 22 VCCA (power), 23 GND (power), 32 VCCI (power), 33 VCCA (power), 44 GND (power), 52 VCCI (power), 65 GND (power), 66 VCCA (power), 67 NC, 82 VCCI (power), 89 GND (power), 98 VCCA (power), 99 VCCI (power), 108 GND (power), 109 VCCA (power), 110 GND (power), 122 VCCA (power), 123 GND (power), 124 VCCI (power), 133 GND (power), 140 VCCI (power), 154 NC, 155 GND (power), 156 VCCA (power), 169 VCCI (power)

## A54SX32A-TQG100
designator U?
A54SX32A FPGA, 81 User IOs, 100-Pin TQFP, Standard Speed Grade, Commercial Grade, Pb-Free; Published: 11-Dec-2009; DatasheetVersion: v5.3, Feb-2007; PackageVersion: ver11.2, Nov-2009; PackageReference: TQ100; Publisher: Altium Limited; PackageDescription: 100-Pin Plastic Quad Flat Pack (TQ100); Code_JEDEC: MS-026-BED; ComponentLink1Description: SX-A Datasheet; ComponentLink1URL: http://www.actel.com/documents/SXA_DS.pdf; ComponentLink2Description: Package Mechanical Drawings; ComponentLink2URL: http://www.actel.com/documents/PckgMechDrwngs.pdf; ComponentLink3Description: SX-A Documents; ComponentLink3URL: http://www.actel.com/products/proasicplus/docs.aspx; ComponentLink4Description: Actel.com Home; ComponentLink4URL: http://www.actel.com/
footprint TQ100_N (Thin QFP, 100-Leads, Body 14x14mm, Pitch 0.5mm, IPC Medium Density)
footprint TQ100_L (Thin QFP, 100-Leads, Body 14x14mm, Pitch 0.5mm, IPC High Density)
footprint TQ100_M (Thin QFP, 100-Leads, Body 14x14mm, Pitch 0.5mm, IPC Low Density)
pins: 1 GND (power), 2 TDI/IO (io), 3 IO (io), 4 IO (io), 5 IO (io), 6 IO (io), 7 TMS (in), 8 VCCI (power), 9 GND (power), 10 IO (io), 11 IO (io), 12 IO (io), 13 IO (io), 14 IO (io), 15 IO (io), 16 ~{TRST}/IO (io), 17 IO (io), 18 IO (io), 19 IO (io), 20 VCCI (power), 21 IO (io), 22 IO (io), 23 IO (io), 24 IO (io), 25 IO (io), 26 IO (io), 27 IO (io), 28 IO (io), 29 IO (io), 30 IO (io), 31 IO (io), 32 IO (io), 33 IO (io), 34 PRB/IO (io), 35 VCCA (power), 36 GND (power), 37 NC, 38 IO (io), 39 HCLK (in), 40 IO (io), 41 IO (io), 42 IO (io), 43 IO (io), 44 VCCI (power), 45 IO (io), 46 IO (io), 47 IO (io), 48 IO (io), 49 TDO/IO (io), 50 IO (io), 51 GND (power), 52 IO (io), 53 IO (io), 54 IO (io), 55 IO (io), 56 IO (io), 57 VCCA (power), 58 VCCI (power), 59 IO (io), 60 IO (io), 61 IO (io), 62 IO (io), 63 IO (io), 64 IO (io), 65 IO (io), 66 IO (io), 67 VCCA (power), 68 GND (power), 69 GND (power), 70 IO (io), 71 IO (io), 72 IO (io), 73 IO (io), 74 IO (io), 75 IO (io), 76 IO (io), 77 IO (io), 78 IO (io), 79 IO (io), 80 IO (io), 81 IO (io), 82 VCCI (power), 83 IO (io), 84 IO (io), 85 IO (io), 86 IO (io), 87 CLKA (in), 88 CLKB (in), 89 NC, 90 VCCA (power), 91 GND (power), 92 PRA/IO (io), 93 IO (io), 94 IO (io), 95 IO (io), 96 IO (io), 97 IO (io), 98 IO (io), 99 IO (io), 100 TCK/IO (io)

## A54SX32A-TQG100A
designator U?
A54SX32A FPGA, 81 User IOs, 100-Pin TQFP, Standard Speed Grade, Automotive Grade, Pb-Free; Published: 11-Dec-2009; DatasheetVersion: v5.3, Feb-2007; PackageVersion: ver11.2, Nov-2009; PackageReference: TQ100; Publisher: Altium Limited; PackageDescription: 100-Pin Plastic Quad Flat Pack (TQ100); Code_JEDEC: MS-026-BED; ComponentLink1Description: SX-A Datasheet; ComponentLink1URL: http://www.actel.com/documents/SXA_DS.pdf; ComponentLink2Description: Package Mechanical Drawings; ComponentLink2URL: http://www.actel.com/documents/PckgMechDrwngs.pdf; ComponentLink3Description: SX-A Documents; ComponentLink3URL: http://www.actel.com/products/proasicplus/docs.aspx; ComponentLink4Description: Actel.com Home; ComponentLink4URL: http://www.actel.com/
footprint TQ100_N (Thin QFP, 100-Leads, Body 14x14mm, Pitch 0.5mm, IPC Medium Density)
footprint TQ100_L (Thin QFP, 100-Leads, Body 14x14mm, Pitch 0.5mm, IPC High Density)
footprint TQ100_M (Thin QFP, 100-Leads, Body 14x14mm, Pitch 0.5mm, IPC Low Density)
pins: 1 GND (power), 2 TDI/IO (io), 3 IO (io), 4 IO (io), 5 IO (io), 6 IO (io), 7 TMS (in), 8 VCCI (power), 9 GND (power), 10 IO (io), 11 IO (io), 12 IO (io), 13 IO (io), 14 IO (io), 15 IO (io), 16 ~{TRST}/IO (io), 17 IO (io), 18 IO (io), 19 IO (io), 20 VCCI (power), 21 IO (io), 22 IO (io), 23 IO (io), 24 IO (io), 25 IO (io), 26 IO (io), 27 IO (io), 28 IO (io), 29 IO (io), 30 IO (io), 31 IO (io), 32 IO (io), 33 IO (io), 34 PRB/IO (io), 35 VCCA (power), 36 GND (power), 37 NC, 38 IO (io), 39 HCLK (in), 40 IO (io), 41 IO (io), 42 IO (io), 43 IO (io), 44 VCCI (power), 45 IO (io), 46 IO (io), 47 IO (io), 48 IO (io), 49 TDO/IO (io), 50 IO (io), 51 GND (power), 52 IO (io), 53 IO (io), 54 IO (io), 55 IO (io), 56 IO (io), 57 VCCA (power), 58 VCCI (power), 59 IO (io), 60 IO (io), 61 IO (io), 62 IO (io), 63 IO (io), 64 IO (io), 65 IO (io), 66 IO (io), 67 VCCA (power), 68 GND (power), 69 GND (power), 70 IO (io), 71 IO (io), 72 IO (io), 73 IO (io), 74 IO (io), 75 IO (io), 76 IO (io), 77 IO (io), 78 IO (io), 79 IO (io), 80 IO (io), 81 IO (io), 82 VCCI (power), 83 IO (io), 84 IO (io), 85 IO (io), 86 IO (io), 87 CLKA (in), 88 CLKB (in), 89 NC, 90 VCCA (power), 91 GND (power), 92 PRA/IO (io), 93 IO (io), 94 IO (io), 95 IO (io), 96 IO (io), 97 IO (io), 98 IO (io), 99 IO (io), 100 TCK/IO (io)

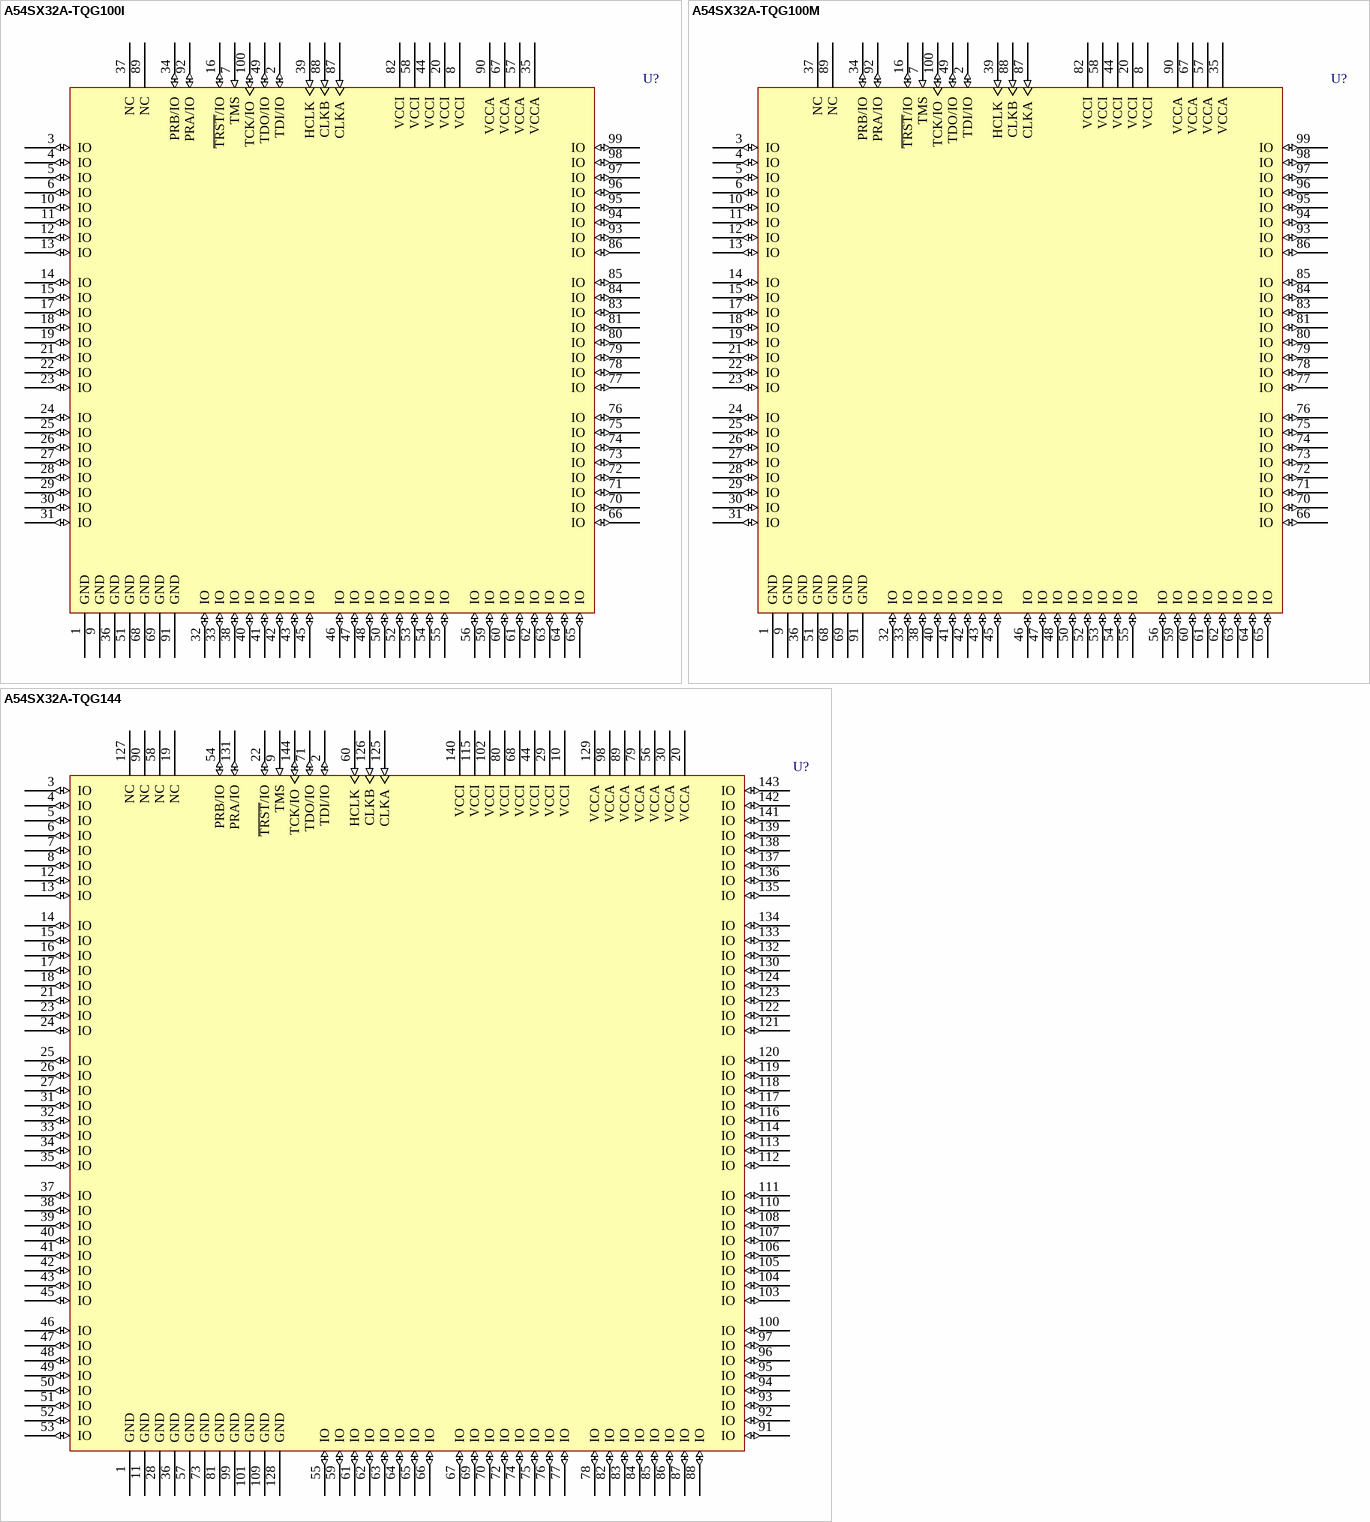
[diagram p250: symbols A54SX32A-TQG100I to A54SX32A-TQG144]

## A54SX32A-TQG100I
designator U?
A54SX32A FPGA, 81 User IOs, 100-Pin TQFP, Standard Speed Grade, Industrial Grade, Pb-Free; Published: 11-Dec-2009; DatasheetVersion: v5.3, Feb-2007; PackageVersion: ver11.2, Nov-2009; PackageReference: TQ100; Publisher: Altium Limited; PackageDescription: 100-Pin Plastic Quad Flat Pack (TQ100); Code_JEDEC: MS-026-BED; ComponentLink1Description: SX-A Datasheet; ComponentLink1URL: http://www.actel.com/documents/SXA_DS.pdf; ComponentLink2Description: Package Mechanical Drawings; ComponentLink2URL: http://www.actel.com/documents/PckgMechDrwngs.pdf; ComponentLink3Description: SX-A Documents; ComponentLink3URL: http://www.actel.com/products/proasicplus/docs.aspx; ComponentLink4Description: Actel.com Home; ComponentLink4URL: http://www.actel.com/
footprint TQ100_N (Thin QFP, 100-Leads, Body 14x14mm, Pitch 0.5mm, IPC Medium Density)
footprint TQ100_L (Thin QFP, 100-Leads, Body 14x14mm, Pitch 0.5mm, IPC High Density)
footprint TQ100_M (Thin QFP, 100-Leads, Body 14x14mm, Pitch 0.5mm, IPC Low Density)
pins: 1 GND (power), 2 TDI/IO (io), 3 IO (io), 4 IO (io), 5 IO (io), 6 IO (io), 7 TMS (in), 8 VCCI (power), 9 GND (power), 10 IO (io), 11 IO (io), 12 IO (io), 13 IO (io), 14 IO (io), 15 IO (io), 16 ~{TRST}/IO (io), 17 IO (io), 18 IO (io), 19 IO (io), 20 VCCI (power), 21 IO (io), 22 IO (io), 23 IO (io), 24 IO (io), 25 IO (io), 26 IO (io), 27 IO (io), 28 IO (io), 29 IO (io), 30 IO (io), 31 IO (io), 32 IO (io), 33 IO (io), 34 PRB/IO (io), 35 VCCA (power), 36 GND (power), 37 NC, 38 IO (io), 39 HCLK (in), 40 IO (io), 41 IO (io), 42 IO (io), 43 IO (io), 44 VCCI (power), 45 IO (io), 46 IO (io), 47 IO (io), 48 IO (io), 49 TDO/IO (io), 50 IO (io), 51 GND (power), 52 IO (io), 53 IO (io), 54 IO (io), 55 IO (io), 56 IO (io), 57 VCCA (power), 58 VCCI (power), 59 IO (io), 60 IO (io), 61 IO (io), 62 IO (io), 63 IO (io), 64 IO (io), 65 IO (io), 66 IO (io), 67 VCCA (power), 68 GND (power), 69 GND (power), 70 IO (io), 71 IO (io), 72 IO (io), 73 IO (io), 74 IO (io), 75 IO (io), 76 IO (io), 77 IO (io), 78 IO (io), 79 IO (io), 80 IO (io), 81 IO (io), 82 VCCI (power), 83 IO (io), 84 IO (io), 85 IO (io), 86 IO (io), 87 CLKA (in), 88 CLKB (in), 89 NC, 90 VCCA (power), 91 GND (power), 92 PRA/IO (io), 93 IO (io), 94 IO (io), 95 IO (io), 96 IO (io), 97 IO (io), 98 IO (io), 99 IO (io), 100 TCK/IO (io)

## A54SX32A-TQG100M
designator U?
A54SX32A FPGA, 81 User IOs, 100-Pin TQFP, Standard Speed Grade, Military Grade, Pb-Free; Published: 11-Dec-2009; DatasheetVersion: v5.3, Feb-2007; PackageVersion: ver11.2, Nov-2009; PackageReference: TQ100; Publisher: Altium Limited; PackageDescription: 100-Pin Plastic Quad Flat Pack (TQ100); Code_JEDEC: MS-026-BED; ComponentLink1Description: SX-A Datasheet; ComponentLink1URL: http://www.actel.com/documents/SXA_DS.pdf; ComponentLink2Description: Package Mechanical Drawings; ComponentLink2URL: http://www.actel.com/documents/PckgMechDrwngs.pdf; ComponentLink3Description: SX-A Documents; ComponentLink3URL: http://www.actel.com/products/proasicplus/docs.aspx; ComponentLink4Description: Actel.com Home; ComponentLink4URL: http://www.actel.com/
footprint TQ100_N (Thin QFP, 100-Leads, Body 14x14mm, Pitch 0.5mm, IPC Medium Density)
footprint TQ100_L (Thin QFP, 100-Leads, Body 14x14mm, Pitch 0.5mm, IPC High Density)
footprint TQ100_M (Thin QFP, 100-Leads, Body 14x14mm, Pitch 0.5mm, IPC Low Density)
pins: 1 GND (power), 2 TDI/IO (io), 3 IO (io), 4 IO (io), 5 IO (io), 6 IO (io), 7 TMS (in), 8 VCCI (power), 9 GND (power), 10 IO (io), 11 IO (io), 12 IO (io), 13 IO (io), 14 IO (io), 15 IO (io), 16 ~{TRST}/IO (io), 17 IO (io), 18 IO (io), 19 IO (io), 20 VCCI (power), 21 IO (io), 22 IO (io), 23 IO (io), 24 IO (io), 25 IO (io), 26 IO (io), 27 IO (io), 28 IO (io), 29 IO (io), 30 IO (io), 31 IO (io), 32 IO (io), 33 IO (io), 34 PRB/IO (io), 35 VCCA (power), 36 GND (power), 37 NC, 38 IO (io), 39 HCLK (in), 40 IO (io), 41 IO (io), 42 IO (io), 43 IO (io), 44 VCCI (power), 45 IO (io), 46 IO (io), 47 IO (io), 48 IO (io), 49 TDO/IO (io), 50 IO (io), 51 GND (power), 52 IO (io), 53 IO (io), 54 IO (io), 55 IO (io), 56 IO (io), 57 VCCA (power), 58 VCCI (power), 59 IO (io), 60 IO (io), 61 IO (io), 62 IO (io), 63 IO (io), 64 IO (io), 65 IO (io), 66 IO (io), 67 VCCA (power), 68 GND (power), 69 GND (power), 70 IO (io), 71 IO (io), 72 IO (io), 73 IO (io), 74 IO (io), 75 IO (io), 76 IO (io), 77 IO (io), 78 IO (io), 79 IO (io), 80 IO (io), 81 IO (io), 82 VCCI (power), 83 IO (io), 84 IO (io), 85 IO (io), 86 IO (io), 87 CLKA (in), 88 CLKB (in), 89 NC, 90 VCCA (power), 91 GND (power), 92 PRA/IO (io), 93 IO (io), 94 IO (io), 95 IO (io), 96 IO (io), 97 IO (io), 98 IO (io), 99 IO (io), 100 TCK/IO (io)

## A54SX32A-TQG144
designator U?
A54SX32A FPGA, 113 User IOs, 144-Pin TQFP, Standard Speed Grade, Commercial Grade, Pb-Free; Published: 11-Dec-2009; DatasheetVersion: v5.3, Feb-2007; PackageVersion: ver11.2, Nov-2009; PackageReference: TQ144; Publisher: Altium Limited; PackageDescription: 144-Pin Plastic Quad Flat Pack (TQ144); Code_JEDEC: MS-026-BFB; ComponentLink1Description: SX-A Datasheet; ComponentLink1URL: http://www.actel.com/documents/SXA_DS.pdf; ComponentLink2Description: Package Mechanical Drawings; ComponentLink2URL: http://www.actel.com/documents/PckgMechDrwngs.pdf; ComponentLink3Description: SX-A Documents; ComponentLink3URL: http://www.actel.com/products/proasicplus/docs.aspx; ComponentLink4Description: Actel.com Home; ComponentLink4URL: http://www.actel.com/
footprint TQ144_N (Thin QFP, 144-Leads, Body 20x20mm, Pitch 0.5mm, IPC Medium Density)
footprint TQ144_L (Thin QFP, 144-Leads, Body 20x20mm, Pitch 0.5mm, IPC High Density)
footprint TQ144_M (Thin QFP, 144-Leads, Body 20x20mm, Pitch 0.5mm, IPC Low Density)
pins: 1 GND (power), 2 TDI/IO (io), 3 IO (io), 4 IO (io), 5 IO (io), 6 IO (io), 7 IO (io), 8 IO (io), 9 TMS (in), 10 VCCI (power), 11 GND (power), 12 IO (io), 13 IO (io), 14 IO (io), 15 IO (io), 16 IO (io), 17 IO (io), 18 IO (io), 19 NC, 20 VCCA (power), 21 IO (io), 22 ~{TRST}/IO (io), 23 IO (io), 24 IO (io), 25 IO (io), 26 IO (io), 27 IO (io), 28 GND (power), 29 VCCI (power), 30 VCCA (power), 31 IO (io), 32 IO (io), 33 IO (io), 34 IO (io), 35 IO (io), 36 GND (power), 37 IO (io), 38 IO (io), 39 IO (io), 40 IO (io), 41 IO (io), 42 IO (io), 43 IO (io), 44 VCCI (power), 45 IO (io), 46 IO (io), 47 IO (io), 48 IO (io), 49 IO (io), 50 IO (io), 51 IO (io), 52 IO (io), 53 IO (io), 54 PRB/IO (io), 55 IO (io), 56 VCCA (power), 57 GND (power), 58 NC, 59 IO (io), 60 HCLK (in), 61 IO (io), 62 IO (io), 63 IO (io), 64 IO (io), 65 IO (io), 66 IO (io), 67 IO (io), 68 VCCI (power), 69 IO (io), 70 IO (io), 71 TDO/IO (io), 72 IO (io), 73 GND (power), 74 IO (io), 75 IO (io), 76 IO (io), 77 IO (io), 78 IO (io), 79 VCCA (power), 80 VCCI (power), 81 GND (power), 82 IO (io), 83 IO (io), 84 IO (io), 85 IO (io), 86 IO (io), 87 IO (io), 88 IO (io), 89 VCCA (power), 90 NC, 91 IO (io), 92 IO (io), 93 IO (io), 94 IO (io), 95 IO (io), 96 IO (io), 97 IO (io), 98 VCCA (power), 99 GND (power), 100 IO (io), 101 GND (power), 102 VCCI (power), 103 IO (io), 104 IO (io), 105 IO (io), 106 IO (io), 107 IO (io), 108 IO (io), 109 GND (power), 110 IO (io), 111 IO (io), 112 IO (io), 113 IO (io), 114 IO (io), 115 VCCI (power), 116 IO (io), 117 IO (io), 118 IO (io), 119 IO (io), 120 IO (io), 121 IO (io), 122 IO (io), 123 IO (io), 124 IO (io), 125 CLKA (in), 126 CLKB (in), 127 NC, 128 GND (power), 129 VCCA (power), 130 IO (io), 131 PRA/IO (io), 132 IO (io), 133 IO (io), 134 IO (io), 135 IO (io), 136 IO (io), 137 IO (io), 138 IO (io), 139 IO (io), 140 VCCI (power), 141 IO (io), 142 IO (io), 143 IO (io), 144 TCK/IO (io)

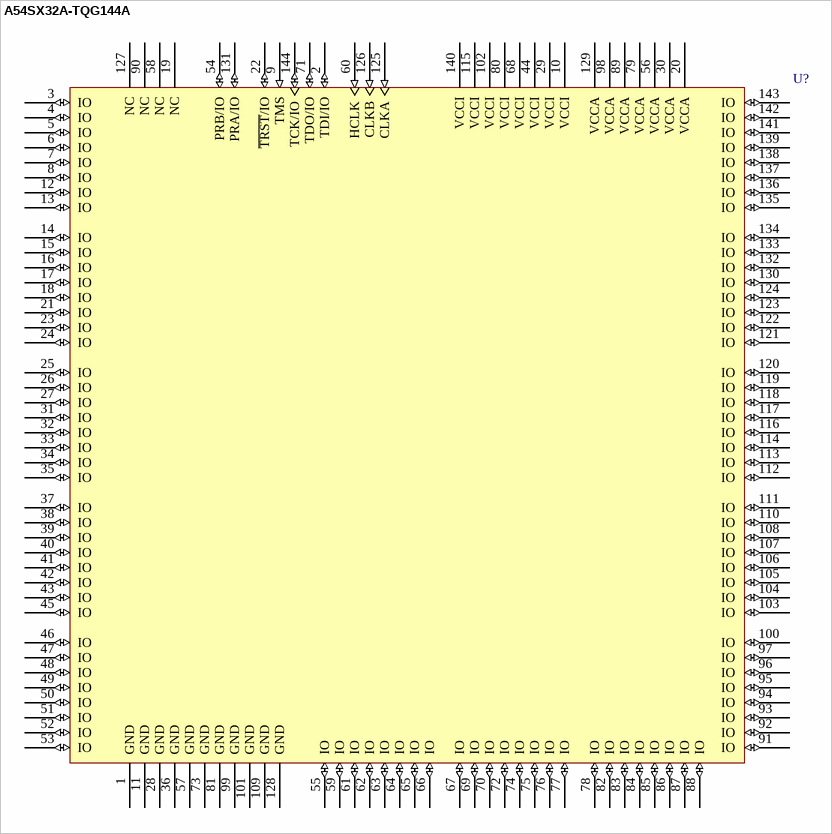
[diagram p251: symbol A54SX32A-TQG144A]

## A54SX32A-TQG144A
designator U?
A54SX32A FPGA, 113 User IOs, 144-Pin TQFP, Standard Speed Grade, Automotive Grade, Pb-Free; Published: 11-Dec-2009; DatasheetVersion: v5.3, Feb-2007; PackageVersion: ver11.2, Nov-2009; PackageReference: TQ144; Publisher: Altium Limited; PackageDescription: 144-Pin Plastic Quad Flat Pack (TQ144); Code_JEDEC: MS-026-BFB; ComponentLink1Description: SX-A Datasheet; ComponentLink1URL: http://www.actel.com/documents/SXA_DS.pdf; ComponentLink2Description: Package Mechanical Drawings; ComponentLink2URL: http://www.actel.com/documents/PckgMechDrwngs.pdf; ComponentLink3Description: SX-A Documents; ComponentLink3URL: http://www.actel.com/products/proasicplus/docs.aspx; ComponentLink4Description: Actel.com Home; ComponentLink4URL: http://www.actel.com/
footprint TQ144_N (Thin QFP, 144-Leads, Body 20x20mm, Pitch 0.5mm, IPC Medium Density)
footprint TQ144_L (Thin QFP, 144-Leads, Body 20x20mm, Pitch 0.5mm, IPC High Density)
footprint TQ144_M (Thin QFP, 144-Leads, Body 20x20mm, Pitch 0.5mm, IPC Low Density)
pins: 1 GND (power), 2 TDI/IO (io), 3 IO (io), 4 IO (io), 5 IO (io), 6 IO (io), 7 IO (io), 8 IO (io), 9 TMS (in), 10 VCCI (power), 11 GND (power), 12 IO (io), 13 IO (io), 14 IO (io), 15 IO (io), 16 IO (io), 17 IO (io), 18 IO (io), 19 NC, 20 VCCA (power), 21 IO (io), 22 ~{TRST}/IO (io), 23 IO (io), 24 IO (io), 25 IO (io), 26 IO (io), 27 IO (io), 28 GND (power), 29 VCCI (power), 30 VCCA (power), 31 IO (io), 32 IO (io), 33 IO (io), 34 IO (io), 35 IO (io), 36 GND (power), 37 IO (io), 38 IO (io), 39 IO (io), 40 IO (io), 41 IO (io), 42 IO (io), 43 IO (io), 44 VCCI (power), 45 IO (io), 46 IO (io), 47 IO (io), 48 IO (io), 49 IO (io), 50 IO (io), 51 IO (io), 52 IO (io), 53 IO (io), 54 PRB/IO (io), 55 IO (io), 56 VCCA (power), 57 GND (power), 58 NC, 59 IO (io), 60 HCLK (in), 61 IO (io), 62 IO (io), 63 IO (io), 64 IO (io), 65 IO (io), 66 IO (io), 67 IO (io), 68 VCCI (power), 69 IO (io), 70 IO (io), 71 TDO/IO (io), 72 IO (io), 73 GND (power), 74 IO (io), 75 IO (io), 76 IO (io), 77 IO (io), 78 IO (io), 79 VCCA (power), 80 VCCI (power), 81 GND (power), 82 IO (io), 83 IO (io), 84 IO (io), 85 IO (io), 86 IO (io), 87 IO (io), 88 IO (io), 89 VCCA (power), 90 NC, 91 IO (io), 92 IO (io), 93 IO (io), 94 IO (io), 95 IO (io), 96 IO (io), 97 IO (io), 98 VCCA (power), 99 GND (power), 100 IO (io), 101 GND (power), 102 VCCI (power), 103 IO (io), 104 IO (io), 105 IO (io), 106 IO (io), 107 IO (io), 108 IO (io), 109 GND (power), 110 IO (io), 111 IO (io), 112 IO (io), 113 IO (io), 114 IO (io), 115 VCCI (power), 116 IO (io), 117 IO (io), 118 IO (io), 119 IO (io), 120 IO (io), 121 IO (io), 122 IO (io), 123 IO (io), 124 IO (io), 125 CLKA (in), 126 CLKB (in), 127 NC, 128 GND (power), 129 VCCA (power), 130 IO (io), 131 PRA/IO (io), 132 IO (io), 133 IO (io), 134 IO (io), 135 IO (io), 136 IO (io), 137 IO (io), 138 IO (io), 139 IO (io), 140 VCCI (power), 141 IO (io), 142 IO (io), 143 IO (io), 144 TCK/IO (io)

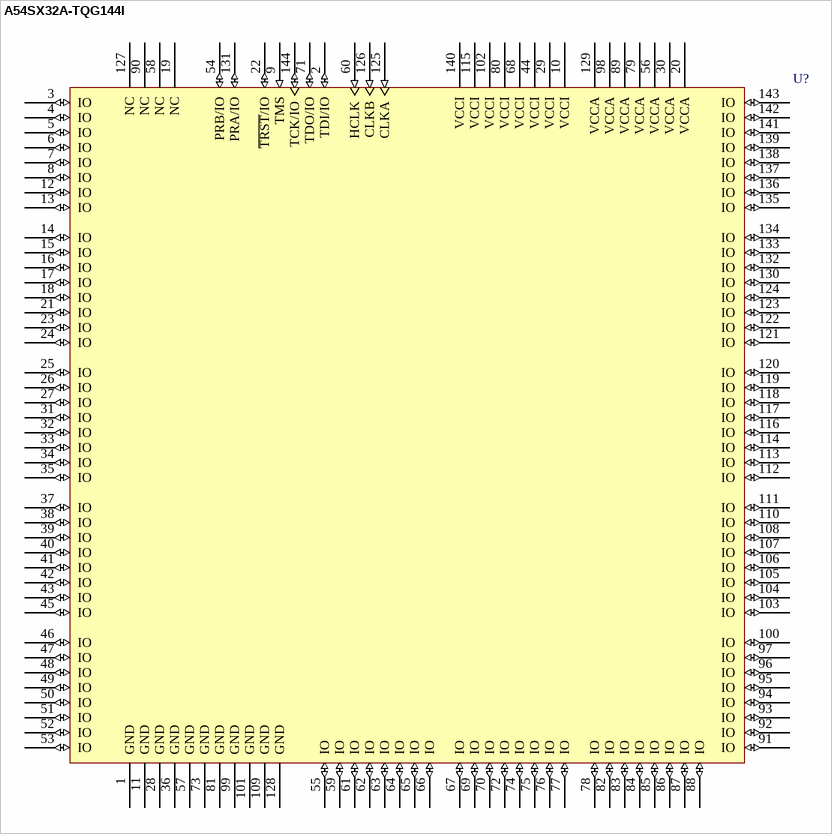
[diagram p252: symbol A54SX32A-TQG144I]

## A54SX32A-TQG144I
designator U?
A54SX32A FPGA, 113 User IOs, 144-Pin TQFP, Standard Speed Grade, Industrial Grade, Pb-Free; Published: 11-Dec-2009; DatasheetVersion: v5.3, Feb-2007; PackageVersion: ver11.2, Nov-2009; PackageReference: TQ144; Publisher: Altium Limited; PackageDescription: 144-Pin Plastic Quad Flat Pack (TQ144); Code_JEDEC: MS-026-BFB; ComponentLink1Description: SX-A Datasheet; ComponentLink1URL: http://www.actel.com/documents/SXA_DS.pdf; ComponentLink2Description: Package Mechanical Drawings; ComponentLink2URL: http://www.actel.com/documents/PckgMechDrwngs.pdf; ComponentLink3Description: SX-A Documents; ComponentLink3URL: http://www.actel.com/products/proasicplus/docs.aspx; ComponentLink4Description: Actel.com Home; ComponentLink4URL: http://www.actel.com/
footprint TQ144_N (Thin QFP, 144-Leads, Body 20x20mm, Pitch 0.5mm, IPC Medium Density)
footprint TQ144_L (Thin QFP, 144-Leads, Body 20x20mm, Pitch 0.5mm, IPC High Density)
footprint TQ144_M (Thin QFP, 144-Leads, Body 20x20mm, Pitch 0.5mm, IPC Low Density)
pins: 1 GND (power), 2 TDI/IO (io), 3 IO (io), 4 IO (io), 5 IO (io), 6 IO (io), 7 IO (io), 8 IO (io), 9 TMS (in), 10 VCCI (power), 11 GND (power), 12 IO (io), 13 IO (io), 14 IO (io), 15 IO (io), 16 IO (io), 17 IO (io), 18 IO (io), 19 NC, 20 VCCA (power), 21 IO (io), 22 ~{TRST}/IO (io), 23 IO (io), 24 IO (io), 25 IO (io), 26 IO (io), 27 IO (io), 28 GND (power), 29 VCCI (power), 30 VCCA (power), 31 IO (io), 32 IO (io), 33 IO (io), 34 IO (io), 35 IO (io), 36 GND (power), 37 IO (io), 38 IO (io), 39 IO (io), 40 IO (io), 41 IO (io), 42 IO (io), 43 IO (io), 44 VCCI (power), 45 IO (io), 46 IO (io), 47 IO (io), 48 IO (io), 49 IO (io), 50 IO (io), 51 IO (io), 52 IO (io), 53 IO (io), 54 PRB/IO (io), 55 IO (io), 56 VCCA (power), 57 GND (power), 58 NC, 59 IO (io), 60 HCLK (in), 61 IO (io), 62 IO (io), 63 IO (io), 64 IO (io), 65 IO (io), 66 IO (io), 67 IO (io), 68 VCCI (power), 69 IO (io), 70 IO (io), 71 TDO/IO (io), 72 IO (io), 73 GND (power), 74 IO (io), 75 IO (io), 76 IO (io), 77 IO (io), 78 IO (io), 79 VCCA (power), 80 VCCI (power), 81 GND (power), 82 IO (io), 83 IO (io), 84 IO (io), 85 IO (io), 86 IO (io), 87 IO (io), 88 IO (io), 89 VCCA (power), 90 NC, 91 IO (io), 92 IO (io), 93 IO (io), 94 IO (io), 95 IO (io), 96 IO (io), 97 IO (io), 98 VCCA (power), 99 GND (power), 100 IO (io), 101 GND (power), 102 VCCI (power), 103 IO (io), 104 IO (io), 105 IO (io), 106 IO (io), 107 IO (io), 108 IO (io), 109 GND (power), 110 IO (io), 111 IO (io), 112 IO (io), 113 IO (io), 114 IO (io), 115 VCCI (power), 116 IO (io), 117 IO (io), 118 IO (io), 119 IO (io), 120 IO (io), 121 IO (io), 122 IO (io), 123 IO (io), 124 IO (io), 125 CLKA (in), 126 CLKB (in), 127 NC, 128 GND (power), 129 VCCA (power), 130 IO (io), 131 PRA/IO (io), 132 IO (io), 133 IO (io), 134 IO (io), 135 IO (io), 136 IO (io), 137 IO (io), 138 IO (io), 139 IO (io), 140 VCCI (power), 141 IO (io), 142 IO (io), 143 IO (io), 144 TCK/IO (io)

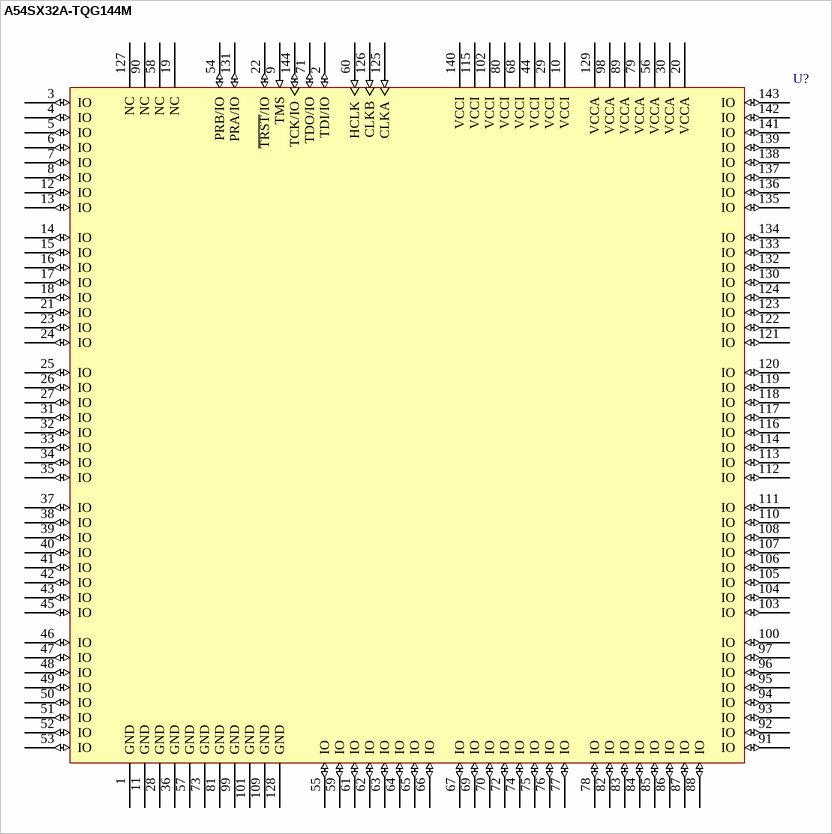
[diagram p253: symbol A54SX32A-TQG144M]

## A54SX32A-TQG144M
designator U?
A54SX32A FPGA, 113 User IOs, 144-Pin TQFP, Standard Speed Grade, Military Grade, Pb-Free; Published: 11-Dec-2009; DatasheetVersion: v5.3, Feb-2007; PackageVersion: ver11.2, Nov-2009; PackageReference: TQ144; Publisher: Altium Limited; PackageDescription: 144-Pin Plastic Quad Flat Pack (TQ144); Code_JEDEC: MS-026-BFB; ComponentLink1Description: SX-A Datasheet; ComponentLink1URL: http://www.actel.com/documents/SXA_DS.pdf; ComponentLink2Description: Package Mechanical Drawings; ComponentLink2URL: http://www.actel.com/documents/PckgMechDrwngs.pdf; ComponentLink3Description: SX-A Documents; ComponentLink3URL: http://www.actel.com/products/proasicplus/docs.aspx; ComponentLink4Description: Actel.com Home; ComponentLink4URL: http://www.actel.com/
footprint TQ144_N (Thin QFP, 144-Leads, Body 20x20mm, Pitch 0.5mm, IPC Medium Density)
footprint TQ144_L (Thin QFP, 144-Leads, Body 20x20mm, Pitch 0.5mm, IPC High Density)
footprint TQ144_M (Thin QFP, 144-Leads, Body 20x20mm, Pitch 0.5mm, IPC Low Density)
pins: 1 GND (power), 2 TDI/IO (io), 3 IO (io), 4 IO (io), 5 IO (io), 6 IO (io), 7 IO (io), 8 IO (io), 9 TMS (in), 10 VCCI (power), 11 GND (power), 12 IO (io), 13 IO (io), 14 IO (io), 15 IO (io), 16 IO (io), 17 IO (io), 18 IO (io), 19 NC, 20 VCCA (power), 21 IO (io), 22 ~{TRST}/IO (io), 23 IO (io), 24 IO (io), 25 IO (io), 26 IO (io), 27 IO (io), 28 GND (power), 29 VCCI (power), 30 VCCA (power), 31 IO (io), 32 IO (io), 33 IO (io), 34 IO (io), 35 IO (io), 36 GND (power), 37 IO (io), 38 IO (io), 39 IO (io), 40 IO (io), 41 IO (io), 42 IO (io), 43 IO (io), 44 VCCI (power), 45 IO (io), 46 IO (io), 47 IO (io), 48 IO (io), 49 IO (io), 50 IO (io), 51 IO (io), 52 IO (io), 53 IO (io), 54 PRB/IO (io), 55 IO (io), 56 VCCA (power), 57 GND (power), 58 NC, 59 IO (io), 60 HCLK (in), 61 IO (io), 62 IO (io), 63 IO (io), 64 IO (io), 65 IO (io), 66 IO (io), 67 IO (io), 68 VCCI (power), 69 IO (io), 70 IO (io), 71 TDO/IO (io), 72 IO (io), 73 GND (power), 74 IO (io), 75 IO (io), 76 IO (io), 77 IO (io), 78 IO (io), 79 VCCA (power), 80 VCCI (power), 81 GND (power), 82 IO (io), 83 IO (io), 84 IO (io), 85 IO (io), 86 IO (io), 87 IO (io), 88 IO (io), 89 VCCA (power), 90 NC, 91 IO (io), 92 IO (io), 93 IO (io), 94 IO (io), 95 IO (io), 96 IO (io), 97 IO (io), 98 VCCA (power), 99 GND (power), 100 IO (io), 101 GND (power), 102 VCCI (power), 103 IO (io), 104 IO (io), 105 IO (io), 106 IO (io), 107 IO (io), 108 IO (io), 109 GND (power), 110 IO (io), 111 IO (io), 112 IO (io), 113 IO (io), 114 IO (io), 115 VCCI (power), 116 IO (io), 117 IO (io), 118 IO (io), 119 IO (io), 120 IO (io), 121 IO (io), 122 IO (io), 123 IO (io), 124 IO (io), 125 CLKA (in), 126 CLKB (in), 127 NC, 128 GND (power), 129 VCCA (power), 130 IO (io), 131 PRA/IO (io), 132 IO (io), 133 IO (io), 134 IO (io), 135 IO (io), 136 IO (io), 137 IO (io), 138 IO (io), 139 IO (io), 140 VCCI (power), 141 IO (io), 142 IO (io), 143 IO (io), 144 TCK/IO (io)

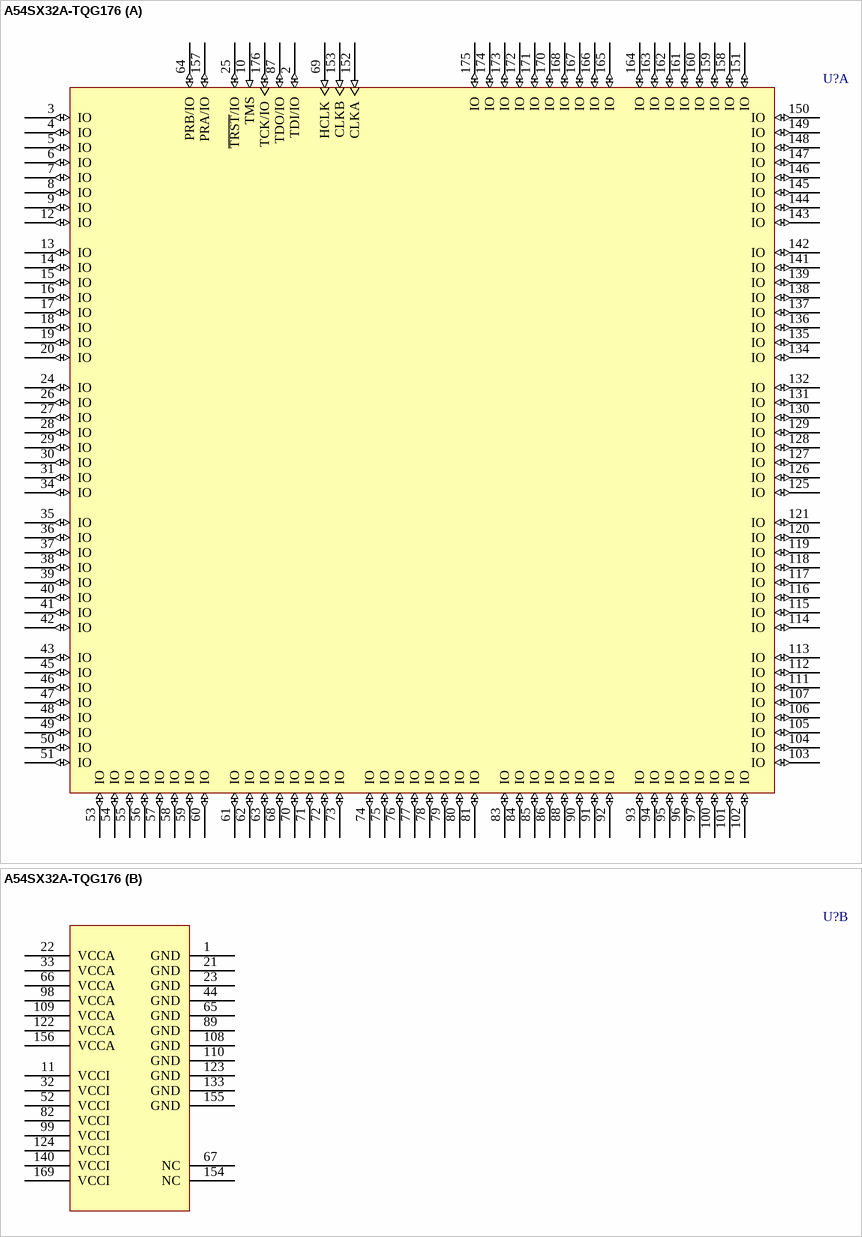
[diagram p254: symbol A54SX32A-TQG176]